# Altium integrated library Altera FLEX 10K.IntLib: 292 symbols (part 17 of 37)
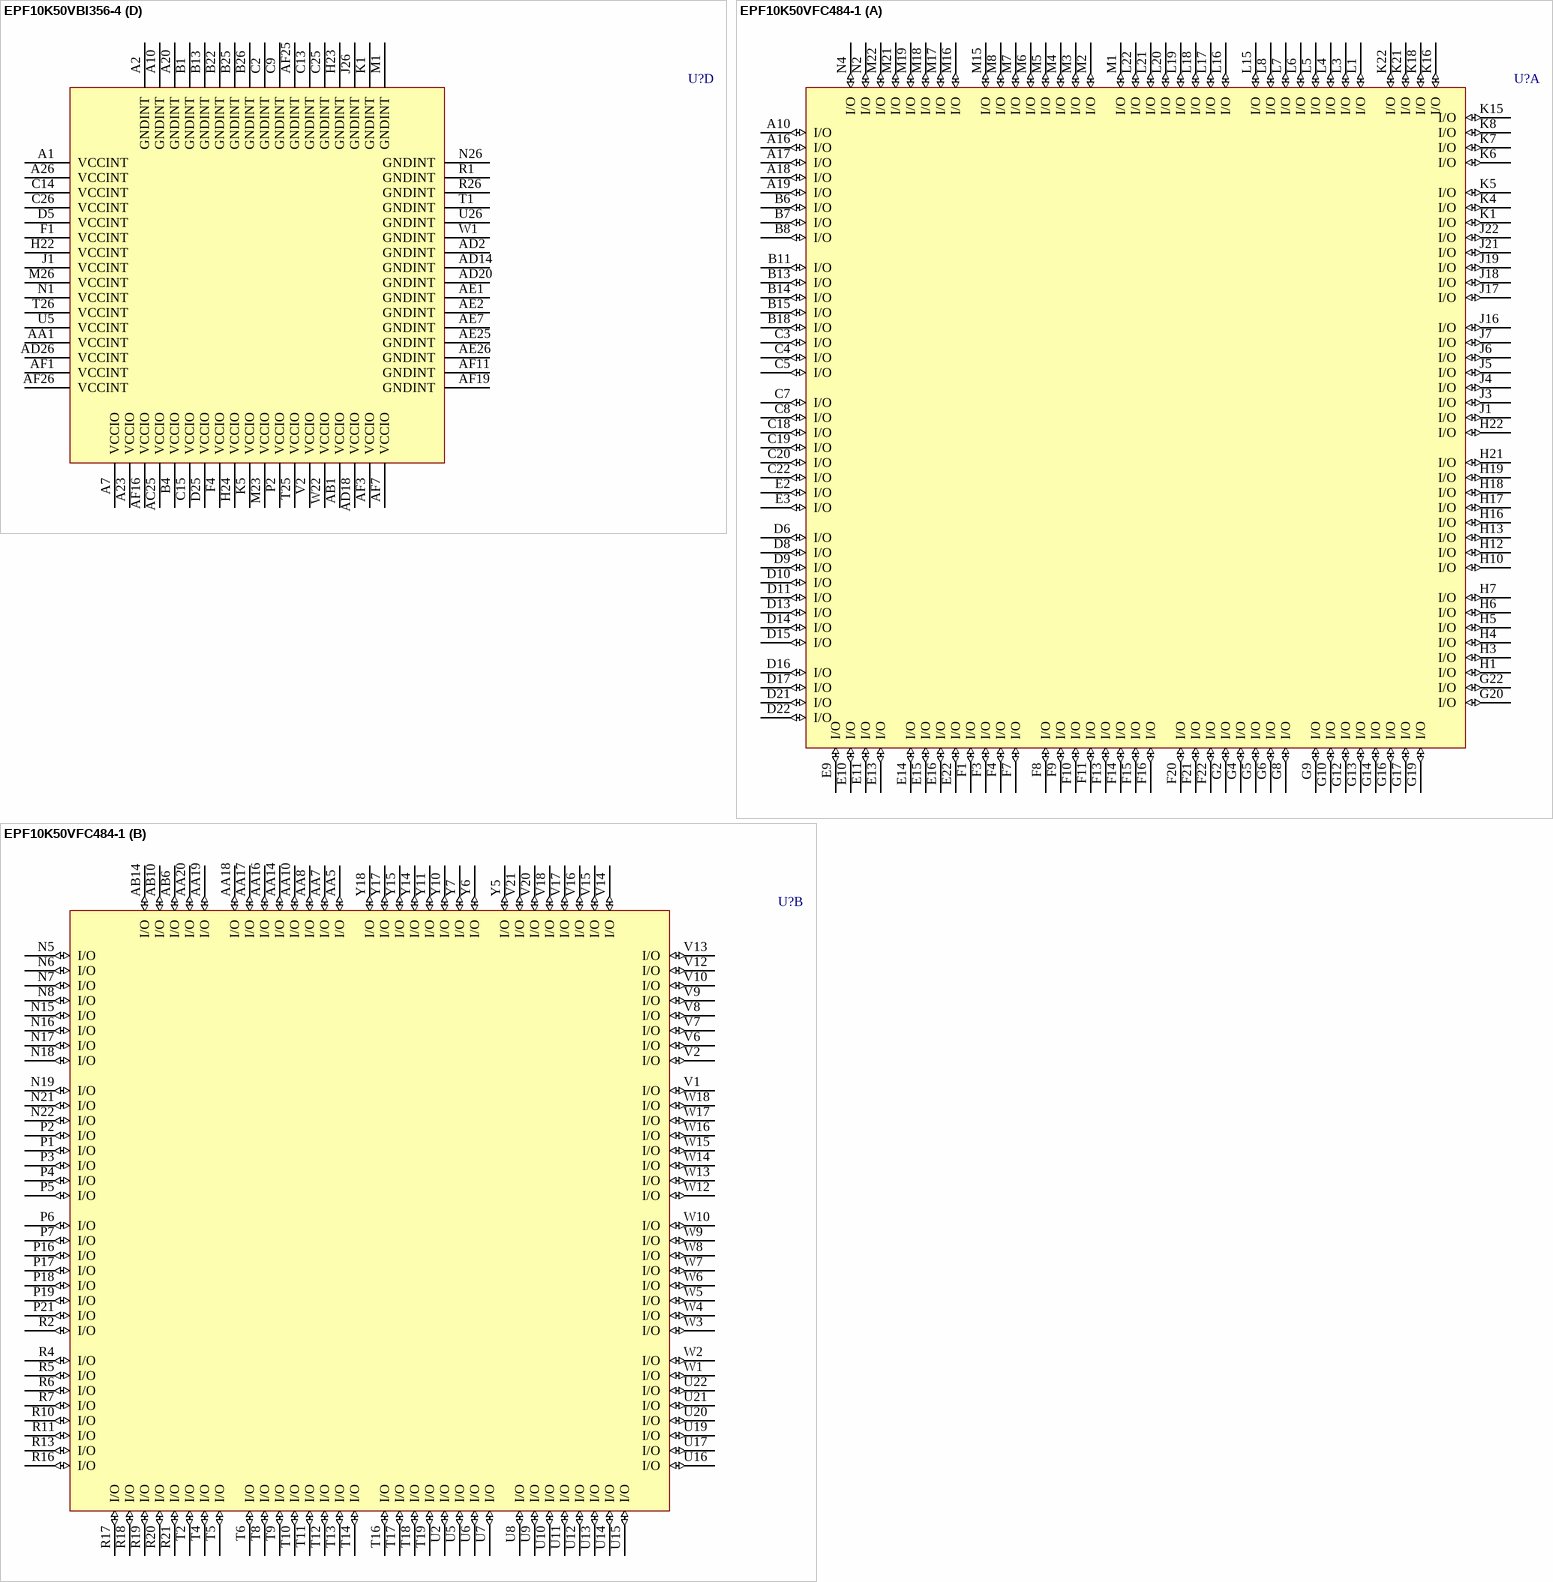
[diagram p414: symbols EPF10K50VBI356-4 to EPF10K50VFC484-1]

## EPF10K50VBI356-4
designator U?
FLEX EPF10K50V 3.3V Embedded PLD, 274 User IO Pins, 356-Pin BGA, Speed Grade 4, Industrial Grade; Published: 17-Jul-2002; LatestRevisionDate: 13-Apr-2006; LatestRevisionNote: IPC-7351 Footprint Added.; DatasheetVersion: ver4.2, Jan-2003; PackageVersion: ver14.2, Oct-2005; PackageReference: BGA356; Publisher: Altium Limited; PackageDescription: 356-Ball Ball Grid Array (BGA356); Supplier 1: Digi-Key; Supplier Part Number 1: EPF10K50VBI356-4-ND; Code_JEDEC: MO-192-BAR-2; ComponentLink1Description: Manufacturer Link; ComponentLink1URL: http://www.altera.com/products/devices/flex10k/f10-index.html; ComponentLink2Description: Datasheet; ComponentLink2URL: http://www.altera.com/literature/ds/dsf10k.pdf
footprint BGA356 (BGA, 356-Leads, Body 35x35mm, Pitch 1.27mm)
3D model EPF10K50V-BGA356 (356-Ball Ball Grid Array (BGA356))
part A pins: A3 I/O (io), A4 I/O (io), A5 I/O (io), A6 I/O (io), A8 I/O (io), A9 I/O (io), A11 I/O (io), A12 I/O (io), A15 I/O (io), A16 I/O (io), A17 I/O (io), A18 I/O (io), A19 I/O (io), A21 I/O (io), A22 I/O (io), A24 I/O (io), A25 I/O (io), B2 I/O (io), B3 I/O (io), B5 I/O (io), B6 I/O (io), B7 I/O (io), B8 I/O (io), B9 I/O (io), B10 I/O (io), B11 I/O (io), B12 I/O (io), B15 I/O (io), B16 I/O (io), B17 I/O (io), B18 I/O (io), B19 I/O (io), B20 I/O (io), B21 I/O (io), B23 I/O (io), B24 I/O (io), C1 I/O (io), C3 I/O (io), C4 I/O (io), C5 I/O (io), C6 I/O (io), C7 I/O (io), C8 I/O (io), C10 I/O (io), C11 I/O (io), C12 I/O (io), C16 I/O (io), C17 I/O (io), C18 I/O (io), C19 I/O (io), C20 I/O (io), C21 I/O (io), C22 I/O (io), C23 I/O (io), C24 I/O (io), D1 I/O (io), D26 I/O (io), E1 I/O (io), E2 I/O (io), E3 I/O (io), E4 I/O (io), E5 I/O (io), E22 I/O (io), E23 I/O (io), E24 I/O (io), E25 I/O (io), E26 I/O (io), F2 I/O (io), F3 I/O (io), F5 I/O (io), F22 I/O (io), F23 I/O (io), F24 I/O (io), F25 I/O (io), F26 I/O (io), G1 I/O (io), G2 I/O (io), G3 I/O (io), G4 I/O (io), G5 I/O (io), G22 I/O (io), G23 I/O (io), G24 I/O (io), G25 I/O (io), G26 I/O (io), H1 I/O (io), H2 I/O (io), H3 I/O (io), H4 I/O (io), H5 I/O (io), H25 I/O (io), H26 I/O (io), J2 I/O (io), J3 I/O (io), J4 I/O (io), J5 I/O (io), J22 I/O (io), J23 I/O (io), J24 I/O (io), J25 I/O (io), K2 I/O (io), K3 I/O (io), K4 I/O (io), K22 I/O (io), K23 I/O (io), K24 I/O (io), K25 I/O (io), K26 I/O (io), L1 I/O (io), L2 I/O (io), L3 I/O (io), L4 I/O (io), L5 I/O (io), L22 I/O (io), L23 I/O (io), L24 I/O (io), L25 I/O (io), L26 I/O (io), M2 I/O (io), M3 I/O (io), M4 I/O (io), M5 I/O (io), M22 I/O (io), M24 I/O (io), M25 I/O (io), N2 I/O (io), N3 I/O (io), N4 I/O (io)
part B pins: AA2 I/O (io), AA3 I/O (io), AA4 I/O (io), AA5 I/O (io), AA22 I/O (io), AA23 I/O (io), AA25 I/O (io), AA26 I/O (io), AB2 I/O (io), AB3 I/O (io), AB4 I/O (io), AB5 I/O (io), AB22 I/O (io), AB23 I/O (io), AB24 I/O (io), AB25 I/O (io), AB26 I/O (io), AC1 I/O (io), AC4 I/O (io), AC26 I/O (io), AD1 I/O (io), AD7 I/O (io), AD9 I/O (io), AD10 I/O (io), AD11 I/O (io), AD12 I/O (io), AD15 I/O (io), AD16 I/O (io), AD17 I/O (io), AD19 I/O (io), AD21 I/O (io), AD22 I/O (io), AE3 I/O (io), AE4 I/O (io), AE6 I/O (io), AE8 I/O (io), AE9 I/O (io), AE10 I/O (io), AE11 I/O (io), AE12 I/O (io), AE15 I/O (io), AE16 I/O (io), AE17 I/O (io), AE18 I/O (io), AE19 I/O (io), AE20 I/O (io), AE21 I/O (io), AE22 I/O (io), AF5 I/O (io), AF6 I/O (io), AF8 I/O (io), AF9 I/O (io), AF10 I/O (io), AF12 I/O (io), AF15 I/O (io), AF17 I/O (io), AF18 I/O (io), AF20 I/O (io), AF21 I/O (io), AF22 I/O (io), AF23 I/O (io), AF24 I/O (io), N5 I/O (io), N22 I/O (io), N23 I/O (io), N24 I/O (io), N25 I/O (io), P1 I/O (io), P3 I/O (io), P4 I/O (io), P5 I/O (io), P22 I/O (io), P23 I/O (io), P24 I/O (io), P25 I/O (io), P26 I/O (io), R2 I/O (io), R3 I/O (io), R4 I/O (io), R5 I/O (io), R22 I/O (io), R23 I/O (io), R24 I/O (io), R25 I/O (io), T2 I/O (io), T3 I/O (io), T4 I/O (io), T5 I/O (io), T22 I/O (io), T23 I/O (io), U1 I/O (io), U2 I/O (io), U3 I/O (io), U4 I/O (io), U23 I/O (io), U24 I/O (io), U25 I/O (io), V1 I/O (io), V3 I/O (io), V4 I/O (io), V5 I/O (io), V22 I/O (io), V23 I/O (io), V24 I/O (io), V25 I/O (io), V26 I/O (io), W2 I/O (io), W3 I/O (io), W4 I/O (io), W5 I/O (io), W23 I/O (io), W24 I/O (io), W25 I/O (io), W26 I/O (io), Y1 I/O (io), Y2 I/O (io), Y3 I/O (io), Y4 I/O (io), Y5 I/O (io), Y22 I/O (io), Y23 I/O (io), Y24 I/O (io), Y25 I/O (io), Y26 I/O (io)
part C pins: A13 INPUT (in), A14 CLK (in), AA24 CLKUSR (io), AC2 nCE (in), AC3 TDI (in), AC5 DCLK (in), AC22 nCEO (out), AC23 TDO (out), AC24 CONF_DONE (in), AD3 DATA0 (in), AD4 DATA1 (io), AD5 DATA2 (io), AD6 DATA4 (io), AD8 DATA6 (io), AD13 DEV_CLRn (io), AD23 CS (io), AD24 nCS (io), AD25 TCK (in), AE5 DATA5 (io), AE13 INPUT (in), AE14 DEV_OE (io), AE23 nRS (io), AE24 nWS (io), AF2 DATA3 (io), AF4 DATA7 (io), AF13 CLK (in), AF14 INPUT (in), B14 INPUT (in), D2 nCONFIG (in), D3 MSEL1 (in), D4 MSEL0 (in), D22 TMS (in), D23 TRST (in), D24 nSTATUS (in), T24 INIT_DONE (io), U22 RDYnBSY (io)
part D pins: A1 VCCINT (power), A2 GNDINT (power), A7 VCCIO (power), A10 GNDINT (power), A20 GNDINT (power), A23 VCCIO (power), A26 VCCINT (power), AA1 VCCINT (power), AB1 VCCIO (power), AC25 VCCIO (power), AD2 GNDINT (power), AD14 GNDINT (power), AD18 VCCIO (power), AD20 GNDINT (power), AD26 VCCINT (power), AE1 GNDINT (power), AE2 GNDINT (power), AE7 GNDINT (power), AE25 GNDINT (power), AE26 GNDINT (power), AF1 VCCINT (power), AF3 VCCIO (power), AF7 VCCIO (power), AF11 GNDINT (power), AF16 VCCIO (power), AF19 GNDINT (power), AF25 GNDINT (power), AF26 VCCINT (power), B1 GNDINT (power), B4 VCCIO (power), B13 GNDINT (power), B22 GNDINT (power), B25 GNDINT (power), B26 GNDINT (power), C2 GNDINT (power), C9 GNDINT (power), C13 GNDINT (power), C14 VCCINT (power), C15 VCCIO (power), C25 GNDINT (power), C26 VCCINT (power), D5 VCCINT (power), D25 VCCIO (power), F1 VCCINT (power), F4 VCCIO (power), H22 VCCINT (power), H23 GNDINT (power), H24 VCCIO (power), J1 VCCINT (power), J26 GNDINT (power), K1 GNDINT (power), K5 VCCIO (power), M1 GNDINT (power), M23 VCCIO (power), M26 VCCINT (power), N1 VCCINT (power), N26 GNDINT (power), P2 VCCIO (power), R1 GNDINT (power), R26 GNDINT (power), T1 GNDINT (power), T25 VCCIO (power), T26 VCCINT (power), U5 VCCINT (power), U26 GNDINT (power), V2 VCCIO (power), W1 GNDINT (power), W22 VCCIO (power)

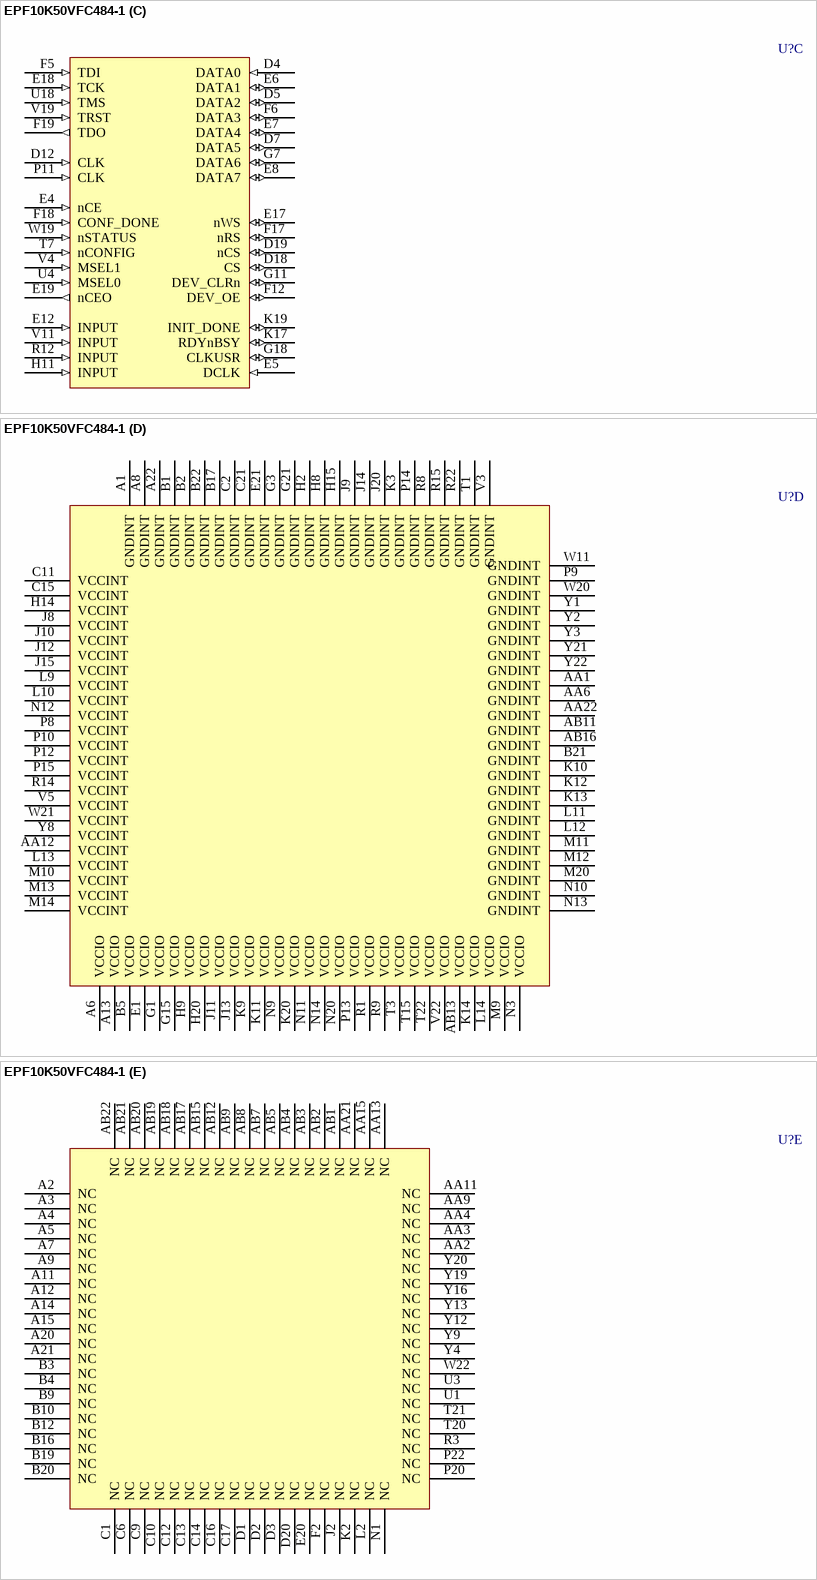
[diagram p165: symbol EPF10K50VFC484-1]

## EPF10K50VFC484-1
designator U?
FLEX EPF10K50V 3.3V Embedded PLD, 291 User IO Pins, 484-Pin FBGA, Speed Grade 1, Commercial Grade; Published: 17-Jul-2002; LatestRevisionDate: 13-Apr-2006; LatestRevisionNote: IPC-7351 Footprint Added.; DatasheetVersion: ver4.2, Jan-2003; PackageVersion: ver16.0, Dec-2009; PackageReference: FBGA484; Publisher: Altium Limited; PackageDescription: 484-Ball FineLine Ball Grid Array (FBGA484) - Flip Chip; Code_JEDEC: MS-034-AAJ-1; Code_IPC: BGA100P22X22-484; ComponentLink1Description: Manufacturer Link; ComponentLink1URL: http://www.altera.com/products/devices/flex10k/f10-index.html; ComponentLink2Description: Datasheet; ComponentLink2URL: http://www.altera.com/literature/ds/dsf10k.pdf
footprint FBGA484 (BGA, 484-Leads, Body 23x23mm, Pitch 1mm)
3D model EPF10K50V-FBGA484 (484-Ball FineLine Ball Grid Array (FBGA484) - Flip Chip)
part A pins: A10 I/O (io), A16 I/O (io), A17 I/O (io), A18 I/O (io), A19 I/O (io), B6 I/O (io), B7 I/O (io), B8 I/O (io), B11 I/O (io), B13 I/O (io), B14 I/O (io), B15 I/O (io), B18 I/O (io), C3 I/O (io), C4 I/O (io), C5 I/O (io), C7 I/O (io), C8 I/O (io), C18 I/O (io), C19 I/O (io), C20 I/O (io), C22 I/O (io), D6 I/O (io), D8 I/O (io), D9 I/O (io), D10 I/O (io), D11 I/O (io), D13 I/O (io), D14 I/O (io), D15 I/O (io), D16 I/O (io), D17 I/O (io), D21 I/O (io), D22 I/O (io), E2 I/O (io), E3 I/O (io), E9 I/O (io), E10 I/O (io), E11 I/O (io), E13 I/O (io), E14 I/O (io), E15 I/O (io), E16 I/O (io), E22 I/O (io), F1 I/O (io), F3 I/O (io), F4 I/O (io), F7 I/O (io), F8 I/O (io), F9 I/O (io), F10 I/O (io), F11 I/O (io), F13 I/O (io), F14 I/O (io), F15 I/O (io), F16 I/O (io), F20 I/O (io), F21 I/O (io), F22 I/O (io), G2 I/O (io), G4 I/O (io), G5 I/O (io), G6 I/O (io), G8 I/O (io), G9 I/O (io), G10 I/O (io), G12 I/O (io), G13 I/O (io), G14 I/O (io), G16 I/O (io), G17 I/O (io), G19 I/O (io), G20 I/O (io), G22 I/O (io), H1 I/O (io), H3 I/O (io), H4 I/O (io), H5 I/O (io), H6 I/O (io), H7 I/O (io), H10 I/O (io), H12 I/O (io), H13 I/O (io), H16 I/O (io), H17 I/O (io), H18 I/O (io), H19 I/O (io), H21 I/O (io), H22 I/O (io), J1 I/O (io), J3 I/O (io), J4 I/O (io), J5 I/O (io), J6 I/O (io), J7 I/O (io), J16 I/O (io), J17 I/O (io), J18 I/O (io), J19 I/O (io), J21 I/O (io), J22 I/O (io), K1 I/O (io), K4 I/O (io), K5 I/O (io), K6 I/O (io), K7 I/O (io), K8 I/O (io), K15 I/O (io), K16 I/O (io), K18 I/O (io), K21 I/O (io), K22 I/O (io), L1 I/O (io), L3 I/O (io), L4 I/O (io), L5 I/O (io), L6 I/O (io), L7 I/O (io), L8 I/O (io), L15 I/O (io), L16 I/O (io), L17 I/O (io), L18 I/O (io), L19 I/O (io), L20 I/O (io), L21 I/O (io), L22 I/O (io), M1 I/O (io), M2 I/O (io), M3 I/O (io), M4 I/O (io), M5 I/O (io), M6 I/O (io), M7 I/O (io), M8 I/O (io), M15 I/O (io), M16 I/O (io), M17 I/O (io), M18 I/O (io), M19 I/O (io), M21 I/O (io), M22 I/O (io), N2 I/O (io), N4 I/O (io)
part B pins: AA5 I/O (io), AA7 I/O (io), AA8 I/O (io), AA10 I/O (io), AA14 I/O (io), AA16 I/O (io), AA17 I/O (io), AA18 I/O (io), AA19 I/O (io), AA20 I/O (io), AB6 I/O (io), AB10 I/O (io), AB14 I/O (io), N5 I/O (io), N6 I/O (io), N7 I/O (io), N8 I/O (io), N15 I/O (io), N16 I/O (io), N17 I/O (io), N18 I/O (io), N19 I/O (io), N21 I/O (io), N22 I/O (io), P1 I/O (io), P2 I/O (io), P3 I/O (io), P4 I/O (io), P5 I/O (io), P6 I/O (io), P7 I/O (io), P16 I/O (io), P17 I/O (io), P18 I/O (io), P19 I/O (io), P21 I/O (io), R2 I/O (io), R4 I/O (io), R5 I/O (io), R6 I/O (io), R7 I/O (io), R10 I/O (io), R11 I/O (io), R13 I/O (io), R16 I/O (io), R17 I/O (io), R18 I/O (io), R19 I/O (io), R20 I/O (io), R21 I/O (io), T2 I/O (io), T4 I/O (io), T5 I/O (io), T6 I/O (io), T8 I/O (io), T9 I/O (io), T10 I/O (io), T11 I/O (io), T12 I/O (io), T13 I/O (io), T14 I/O (io), T16 I/O (io), T17 I/O (io), T18 I/O (io), T19 I/O (io), U2 I/O (io), U5 I/O (io), U6 I/O (io), U7 I/O (io), U8 I/O (io), U9 I/O (io), U10 I/O (io), U11 I/O (io), U12 I/O (io), U13 I/O (io), U14 I/O (io), U15 I/O (io), U16 I/O (io), U17 I/O (io), U19 I/O (io), U20 I/O (io), U21 I/O (io), U22 I/O (io), V1 I/O (io), V2 I/O (io), V6 I/O (io), V7 I/O (io), V8 I/O (io), V9 I/O (io), V10 I/O (io), V12 I/O (io), V13 I/O (io), V14 I/O (io), V15 I/O (io), V16 I/O (io), V17 I/O (io), V18 I/O (io), V20 I/O (io), V21 I/O (io), W1 I/O (io), W2 I/O (io), W3 I/O (io), W4 I/O (io), W5 I/O (io), W6 I/O (io), W7 I/O (io), W8 I/O (io), W9 I/O (io), W10 I/O (io), W12 I/O (io), W13 I/O (io), W14 I/O (io), W15 I/O (io), W16 I/O (io), W17 I/O (io), W18 I/O (io), Y5 I/O (io), Y6 I/O (io), Y7 I/O (io), Y10 I/O (io), Y11 I/O (io), Y14 I/O (io), Y15 I/O (io), Y17 I/O (io), Y18 I/O (io)
part C pins: D4 DATA0 (in), D5 DATA2 (io), D7 DATA5 (io), D12 CLK (in), D18 CS (io), D19 nCS (io), E4 nCE (in), E5 DCLK (in), E6 DATA1 (io), E7 DATA4 (io), E8 DATA7 (io), E12 INPUT (in), E17 nWS (io), E18 TCK (in), E19 nCEO (out), F5 TDI (in), F6 DATA3 (io), F12 DEV_OE (io), F17 nRS (io), F18 CONF_DONE (in), F19 TDO (out), G7 DATA6 (io), G11 DEV_CLRn (io), G18 CLKUSR (io), H11 INPUT (in), K17 RDYnBSY (io), K19 INIT_DONE (io), P11 CLK (in), R12 INPUT (in), T7 nCONFIG (in), U4 MSEL0 (in), U18 TMS (in), V4 MSEL1 (in), V11 INPUT (in), V19 TRST (in), W19 nSTATUS (in)
part D pins: A1 GNDINT (power), A6 VCCIO (power), A8 GNDINT (power), A13 VCCIO (power), A22 GNDINT (power), AA1 GNDINT (power), AA6 GNDINT (power), AA12 VCCINT (power), AA22 GNDINT (power), AB11 GNDINT (power), AB13 VCCIO (power), AB16 GNDINT (power), B1 GNDINT (power), B2 GNDINT (power), B5 VCCIO (power), B17 GNDINT (power), B21 GNDINT (power), B22 GNDINT (power), C2 GNDINT (power), C11 VCCINT (power), C15 VCCINT (power), C21 GNDINT (power), E1 VCCIO (power), E21 GNDINT (power), G1 VCCIO (power), G3 GNDINT (power), G15 VCCIO (power), G21 GNDINT (power), H2 GNDINT (power), H8 GNDINT (power), H9 VCCIO (power), H14 VCCINT (power), H15 GNDINT (power), H20 VCCIO (power), J8 VCCINT (power), J9 GNDINT (power), J10 VCCINT (power), J11 VCCIO (power), J12 VCCINT (power), J13 VCCIO (power), J14 GNDINT (power), J15 VCCINT (power), J20 GNDINT (power), K3 GNDINT (power), K9 VCCIO (power), K10 GNDINT (power), K11 VCCIO (power), K12 GNDINT (power), K13 GNDINT (power), K14 VCCIO (power), K20 VCCIO (power), L9 VCCINT (power), L10 VCCINT (power), L11 GNDINT (power), L12 GNDINT (power), L13 VCCINT (power), L14 VCCIO (power), M9 VCCIO (power), M10 VCCINT (power), M11 GNDINT (power), M12 GNDINT (power), M13 VCCINT (power), M14 VCCINT (power), M20 GNDINT (power), N3 VCCIO (power), N9 VCCIO (power), N10 GNDINT (power), N11 VCCIO (power), N12 VCCINT (power), N13 GNDINT (power), N14 VCCIO (power), N20 VCCIO (power), P8 VCCINT (power), P9 GNDINT (power), P10 VCCINT (power), P12 VCCINT (power), P13 VCCIO (power), P14 GNDINT (power), P15 VCCINT (power), R1 VCCIO (power), R8 GNDINT (power), R9 VCCIO (power), R14 VCCINT (power), R15 GNDINT (power), R22 GNDINT (power), T1 GNDINT (power), T3 VCCIO (power), T15 VCCIO (power), T22 VCCIO (power), V3 GNDINT (power), V5 VCCINT (power), V22 VCCIO (power), W11 GNDINT (power), W20 GNDINT (power), W21 VCCINT (power), Y1 GNDINT (power), Y2 GNDINT (power), Y3 GNDINT (power), Y8 VCCINT (power), Y21 GNDINT (power), Y22 GNDINT (power)
part E pins: A2 NC, A3 NC, A4 NC, A5 NC, A7 NC, A9 NC, A11 NC, A12 NC, A14 NC, A15 NC, A20 NC, A21 NC, AA2 NC, AA3 NC, AA4 NC, AA9 NC, AA11 NC, AA13 NC, AA15 NC, AA21 NC, AB1 NC, AB2 NC, AB3 NC, AB4 NC, AB5 NC, AB7 NC, AB8 NC, AB9 NC, AB12 NC, AB15 NC, AB17 NC, AB18 NC, AB19 NC, AB20 NC, AB21 NC, AB22 NC, B3 NC, B4 NC, B9 NC, B10 NC, B12 NC, B16 NC, B19 NC, B20 NC, C1 NC, C6 NC, C9 NC, C10 NC, C12 NC, C13 NC, C14 NC, C16 NC, C17 NC, D1 NC, D2 NC, D3 NC, D20 NC, E20 NC, F2 NC, J2 NC, K2 NC, L2 NC, N1 NC, P20 NC, P22 NC, R3 NC, T20 NC, T21 NC, U1 NC, U3 NC, W22 NC, Y4 NC, Y9 NC, Y12 NC, Y13 NC, Y16 NC, Y19 NC, Y20 NC

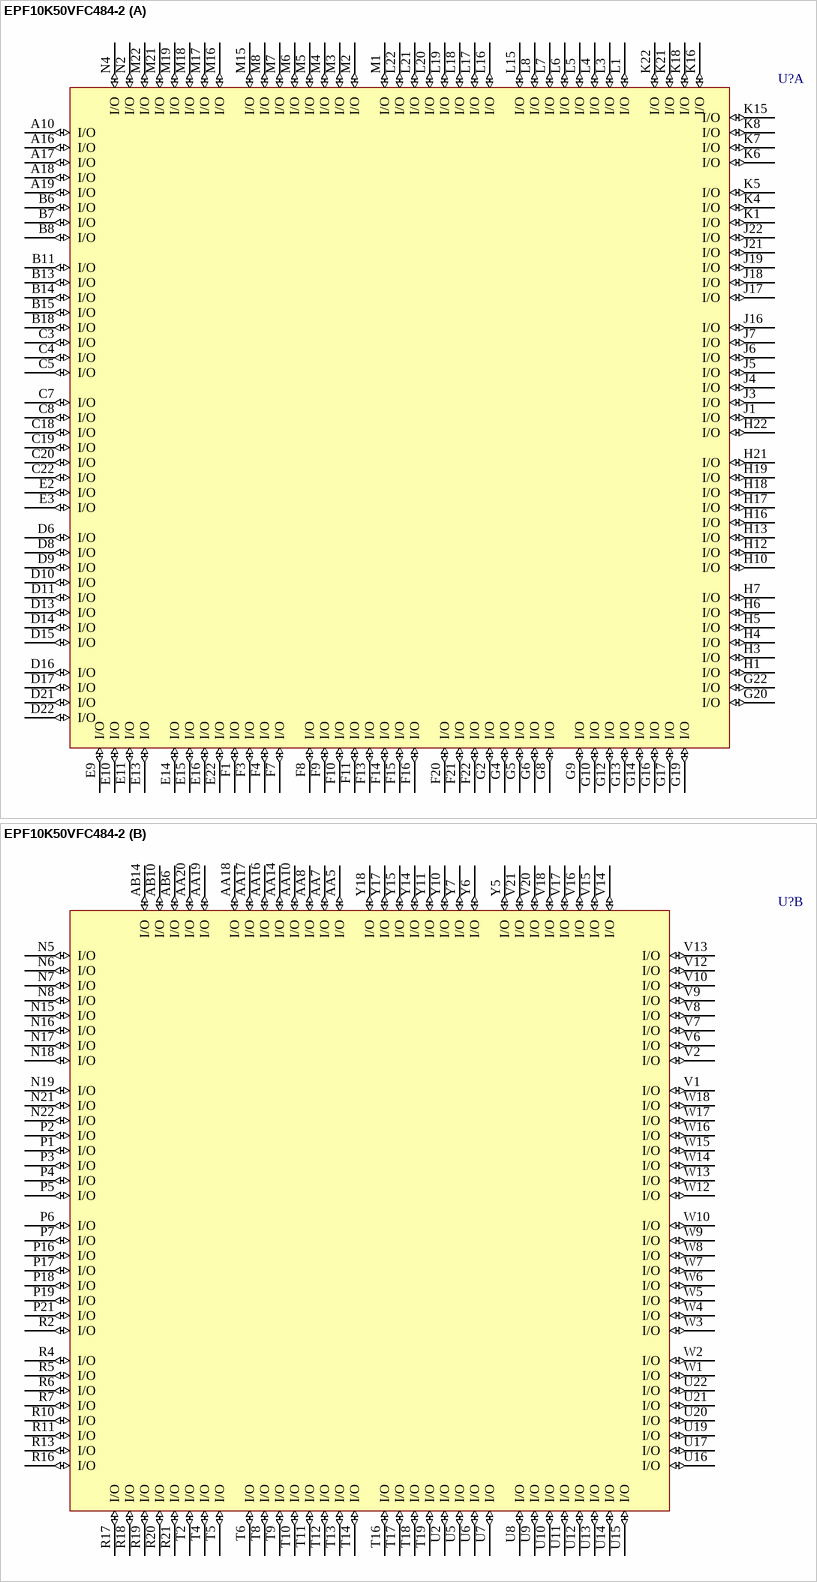
[diagram p166: symbol EPF10K50VFC484-2]

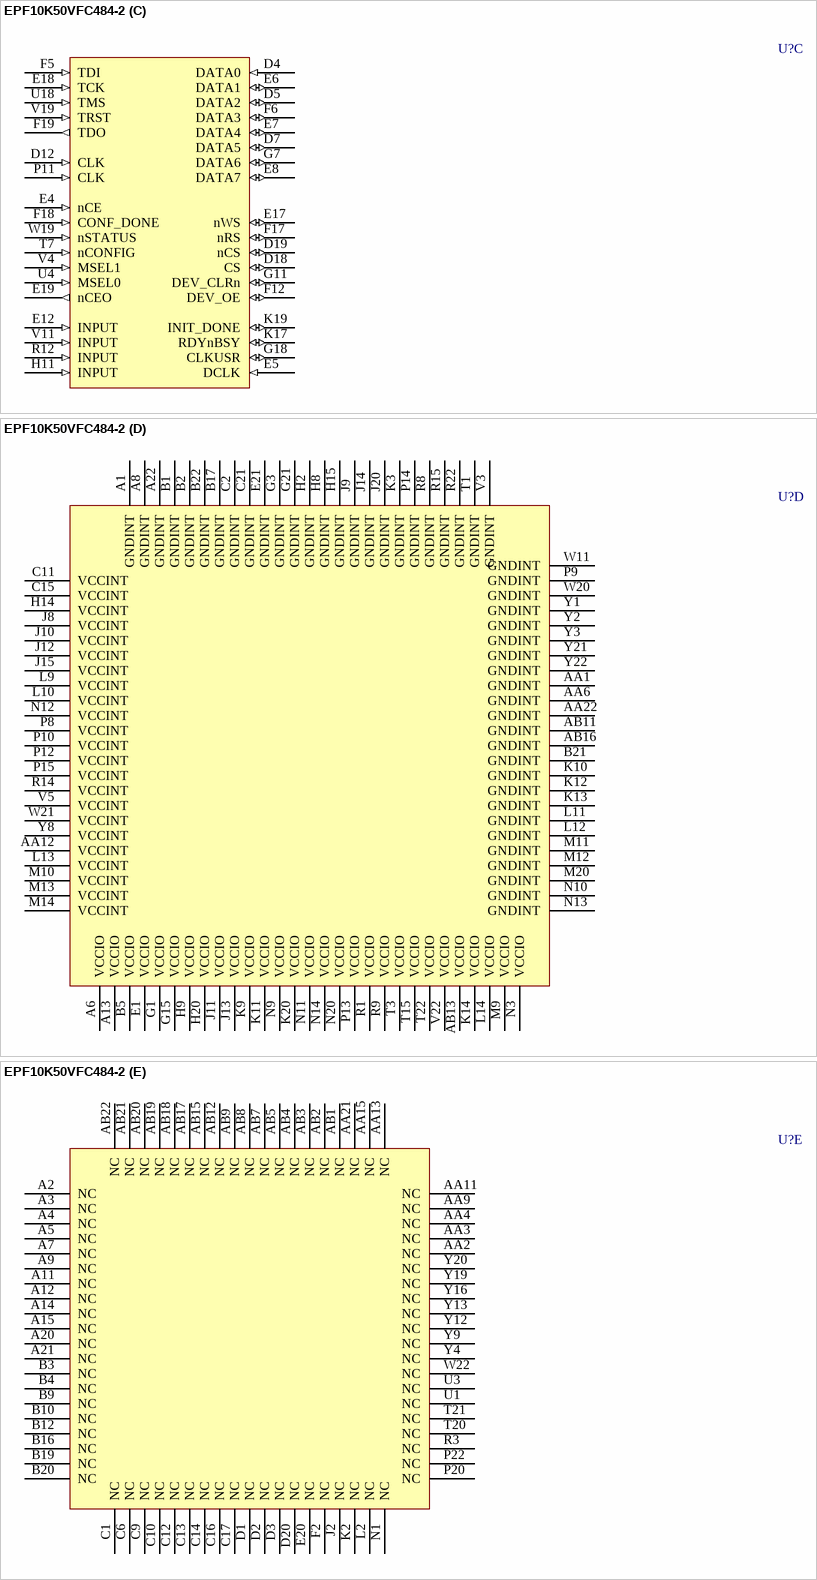
[diagram p167: symbol EPF10K50VFC484-2]

## EPF10K50VFC484-2
designator U?
FLEX EPF10K50V 3.3V Embedded PLD, 291 User IO Pins, 484-Pin FBGA, Speed Grade 2, Commercial Grade; Published: 17-Jul-2002; LatestRevisionDate: 13-Apr-2006; LatestRevisionNote: IPC-7351 Footprint Added.; DatasheetVersion: ver4.2, Jan-2003; PackageVersion: ver16.0, Dec-2009; PackageReference: FBGA484; Publisher: Altium Limited; PackageDescription: 484-Ball FineLine Ball Grid Array (FBGA484) - Flip Chip; Code_JEDEC: MS-034-AAJ-1; Code_IPC: BGA100P22X22-484; ComponentLink1Description: Manufacturer Link; ComponentLink1URL: http://www.altera.com/products/devices/flex10k/f10-index.html; ComponentLink2Description: Datasheet; ComponentLink2URL: http://www.altera.com/literature/ds/dsf10k.pdf
footprint FBGA484 (BGA, 484-Leads, Body 23x23mm, Pitch 1mm)
3D model EPF10K50V-FBGA484 (484-Ball FineLine Ball Grid Array (FBGA484) - Flip Chip)
part A pins: A10 I/O (io), A16 I/O (io), A17 I/O (io), A18 I/O (io), A19 I/O (io), B6 I/O (io), B7 I/O (io), B8 I/O (io), B11 I/O (io), B13 I/O (io), B14 I/O (io), B15 I/O (io), B18 I/O (io), C3 I/O (io), C4 I/O (io), C5 I/O (io), C7 I/O (io), C8 I/O (io), C18 I/O (io), C19 I/O (io), C20 I/O (io), C22 I/O (io), D6 I/O (io), D8 I/O (io), D9 I/O (io), D10 I/O (io), D11 I/O (io), D13 I/O (io), D14 I/O (io), D15 I/O (io), D16 I/O (io), D17 I/O (io), D21 I/O (io), D22 I/O (io), E2 I/O (io), E3 I/O (io), E9 I/O (io), E10 I/O (io), E11 I/O (io), E13 I/O (io), E14 I/O (io), E15 I/O (io), E16 I/O (io), E22 I/O (io), F1 I/O (io), F3 I/O (io), F4 I/O (io), F7 I/O (io), F8 I/O (io), F9 I/O (io), F10 I/O (io), F11 I/O (io), F13 I/O (io), F14 I/O (io), F15 I/O (io), F16 I/O (io), F20 I/O (io), F21 I/O (io), F22 I/O (io), G2 I/O (io), G4 I/O (io), G5 I/O (io), G6 I/O (io), G8 I/O (io), G9 I/O (io), G10 I/O (io), G12 I/O (io), G13 I/O (io), G14 I/O (io), G16 I/O (io), G17 I/O (io), G19 I/O (io), G20 I/O (io), G22 I/O (io), H1 I/O (io), H3 I/O (io), H4 I/O (io), H5 I/O (io), H6 I/O (io), H7 I/O (io), H10 I/O (io), H12 I/O (io), H13 I/O (io), H16 I/O (io), H17 I/O (io), H18 I/O (io), H19 I/O (io), H21 I/O (io), H22 I/O (io), J1 I/O (io), J3 I/O (io), J4 I/O (io), J5 I/O (io), J6 I/O (io), J7 I/O (io), J16 I/O (io), J17 I/O (io), J18 I/O (io), J19 I/O (io), J21 I/O (io), J22 I/O (io), K1 I/O (io), K4 I/O (io), K5 I/O (io), K6 I/O (io), K7 I/O (io), K8 I/O (io), K15 I/O (io), K16 I/O (io), K18 I/O (io), K21 I/O (io), K22 I/O (io), L1 I/O (io), L3 I/O (io), L4 I/O (io), L5 I/O (io), L6 I/O (io), L7 I/O (io), L8 I/O (io), L15 I/O (io), L16 I/O (io), L17 I/O (io), L18 I/O (io), L19 I/O (io), L20 I/O (io), L21 I/O (io), L22 I/O (io), M1 I/O (io), M2 I/O (io), M3 I/O (io), M4 I/O (io), M5 I/O (io), M6 I/O (io), M7 I/O (io), M8 I/O (io), M15 I/O (io), M16 I/O (io), M17 I/O (io), M18 I/O (io), M19 I/O (io), M21 I/O (io), M22 I/O (io), N2 I/O (io), N4 I/O (io)
part B pins: AA5 I/O (io), AA7 I/O (io), AA8 I/O (io), AA10 I/O (io), AA14 I/O (io), AA16 I/O (io), AA17 I/O (io), AA18 I/O (io), AA19 I/O (io), AA20 I/O (io), AB6 I/O (io), AB10 I/O (io), AB14 I/O (io), N5 I/O (io), N6 I/O (io), N7 I/O (io), N8 I/O (io), N15 I/O (io), N16 I/O (io), N17 I/O (io), N18 I/O (io), N19 I/O (io), N21 I/O (io), N22 I/O (io), P1 I/O (io), P2 I/O (io), P3 I/O (io), P4 I/O (io), P5 I/O (io), P6 I/O (io), P7 I/O (io), P16 I/O (io), P17 I/O (io), P18 I/O (io), P19 I/O (io), P21 I/O (io), R2 I/O (io), R4 I/O (io), R5 I/O (io), R6 I/O (io), R7 I/O (io), R10 I/O (io), R11 I/O (io), R13 I/O (io), R16 I/O (io), R17 I/O (io), R18 I/O (io), R19 I/O (io), R20 I/O (io), R21 I/O (io), T2 I/O (io), T4 I/O (io), T5 I/O (io), T6 I/O (io), T8 I/O (io), T9 I/O (io), T10 I/O (io), T11 I/O (io), T12 I/O (io), T13 I/O (io), T14 I/O (io), T16 I/O (io), T17 I/O (io), T18 I/O (io), T19 I/O (io), U2 I/O (io), U5 I/O (io), U6 I/O (io), U7 I/O (io), U8 I/O (io), U9 I/O (io), U10 I/O (io), U11 I/O (io), U12 I/O (io), U13 I/O (io), U14 I/O (io), U15 I/O (io), U16 I/O (io), U17 I/O (io), U19 I/O (io), U20 I/O (io), U21 I/O (io), U22 I/O (io), V1 I/O (io), V2 I/O (io), V6 I/O (io), V7 I/O (io), V8 I/O (io), V9 I/O (io), V10 I/O (io), V12 I/O (io), V13 I/O (io), V14 I/O (io), V15 I/O (io), V16 I/O (io), V17 I/O (io), V18 I/O (io), V20 I/O (io), V21 I/O (io), W1 I/O (io), W2 I/O (io), W3 I/O (io), W4 I/O (io), W5 I/O (io), W6 I/O (io), W7 I/O (io), W8 I/O (io), W9 I/O (io), W10 I/O (io), W12 I/O (io), W13 I/O (io), W14 I/O (io), W15 I/O (io), W16 I/O (io), W17 I/O (io), W18 I/O (io), Y5 I/O (io), Y6 I/O (io), Y7 I/O (io), Y10 I/O (io), Y11 I/O (io), Y14 I/O (io), Y15 I/O (io), Y17 I/O (io), Y18 I/O (io)
part C pins: D4 DATA0 (in), D5 DATA2 (io), D7 DATA5 (io), D12 CLK (in), D18 CS (io), D19 nCS (io), E4 nCE (in), E5 DCLK (in), E6 DATA1 (io), E7 DATA4 (io), E8 DATA7 (io), E12 INPUT (in), E17 nWS (io), E18 TCK (in), E19 nCEO (out), F5 TDI (in), F6 DATA3 (io), F12 DEV_OE (io), F17 nRS (io), F18 CONF_DONE (in), F19 TDO (out), G7 DATA6 (io), G11 DEV_CLRn (io), G18 CLKUSR (io), H11 INPUT (in), K17 RDYnBSY (io), K19 INIT_DONE (io), P11 CLK (in), R12 INPUT (in), T7 nCONFIG (in), U4 MSEL0 (in), U18 TMS (in), V4 MSEL1 (in), V11 INPUT (in), V19 TRST (in), W19 nSTATUS (in)
part D pins: A1 GNDINT (power), A6 VCCIO (power), A8 GNDINT (power), A13 VCCIO (power), A22 GNDINT (power), AA1 GNDINT (power), AA6 GNDINT (power), AA12 VCCINT (power), AA22 GNDINT (power), AB11 GNDINT (power), AB13 VCCIO (power), AB16 GNDINT (power), B1 GNDINT (power), B2 GNDINT (power), B5 VCCIO (power), B17 GNDINT (power), B21 GNDINT (power), B22 GNDINT (power), C2 GNDINT (power), C11 VCCINT (power), C15 VCCINT (power), C21 GNDINT (power), E1 VCCIO (power), E21 GNDINT (power), G1 VCCIO (power), G3 GNDINT (power), G15 VCCIO (power), G21 GNDINT (power), H2 GNDINT (power), H8 GNDINT (power), H9 VCCIO (power), H14 VCCINT (power), H15 GNDINT (power), H20 VCCIO (power), J8 VCCINT (power), J9 GNDINT (power), J10 VCCINT (power), J11 VCCIO (power), J12 VCCINT (power), J13 VCCIO (power), J14 GNDINT (power), J15 VCCINT (power), J20 GNDINT (power), K3 GNDINT (power), K9 VCCIO (power), K10 GNDINT (power), K11 VCCIO (power), K12 GNDINT (power), K13 GNDINT (power), K14 VCCIO (power), K20 VCCIO (power), L9 VCCINT (power), L10 VCCINT (power), L11 GNDINT (power), L12 GNDINT (power), L13 VCCINT (power), L14 VCCIO (power), M9 VCCIO (power), M10 VCCINT (power), M11 GNDINT (power), M12 GNDINT (power), M13 VCCINT (power), M14 VCCINT (power), M20 GNDINT (power), N3 VCCIO (power), N9 VCCIO (power), N10 GNDINT (power), N11 VCCIO (power), N12 VCCINT (power), N13 GNDINT (power), N14 VCCIO (power), N20 VCCIO (power), P8 VCCINT (power), P9 GNDINT (power), P10 VCCINT (power), P12 VCCINT (power), P13 VCCIO (power), P14 GNDINT (power), P15 VCCINT (power), R1 VCCIO (power), R8 GNDINT (power), R9 VCCIO (power), R14 VCCINT (power), R15 GNDINT (power), R22 GNDINT (power), T1 GNDINT (power), T3 VCCIO (power), T15 VCCIO (power), T22 VCCIO (power), V3 GNDINT (power), V5 VCCINT (power), V22 VCCIO (power), W11 GNDINT (power), W20 GNDINT (power), W21 VCCINT (power), Y1 GNDINT (power), Y2 GNDINT (power), Y3 GNDINT (power), Y8 VCCINT (power), Y21 GNDINT (power), Y22 GNDINT (power)
part E pins: A2 NC, A3 NC, A4 NC, A5 NC, A7 NC, A9 NC, A11 NC, A12 NC, A14 NC, A15 NC, A20 NC, A21 NC, AA2 NC, AA3 NC, AA4 NC, AA9 NC, AA11 NC, AA13 NC, AA15 NC, AA21 NC, AB1 NC, AB2 NC, AB3 NC, AB4 NC, AB5 NC, AB7 NC, AB8 NC, AB9 NC, AB12 NC, AB15 NC, AB17 NC, AB18 NC, AB19 NC, AB20 NC, AB21 NC, AB22 NC, B3 NC, B4 NC, B9 NC, B10 NC, B12 NC, B16 NC, B19 NC, B20 NC, C1 NC, C6 NC, C9 NC, C10 NC, C12 NC, C13 NC, C14 NC, C16 NC, C17 NC, D1 NC, D2 NC, D3 NC, D20 NC, E20 NC, F2 NC, J2 NC, K2 NC, L2 NC, N1 NC, P20 NC, P22 NC, R3 NC, T20 NC, T21 NC, U1 NC, U3 NC, W22 NC, Y4 NC, Y9 NC, Y12 NC, Y13 NC, Y16 NC, Y19 NC, Y20 NC

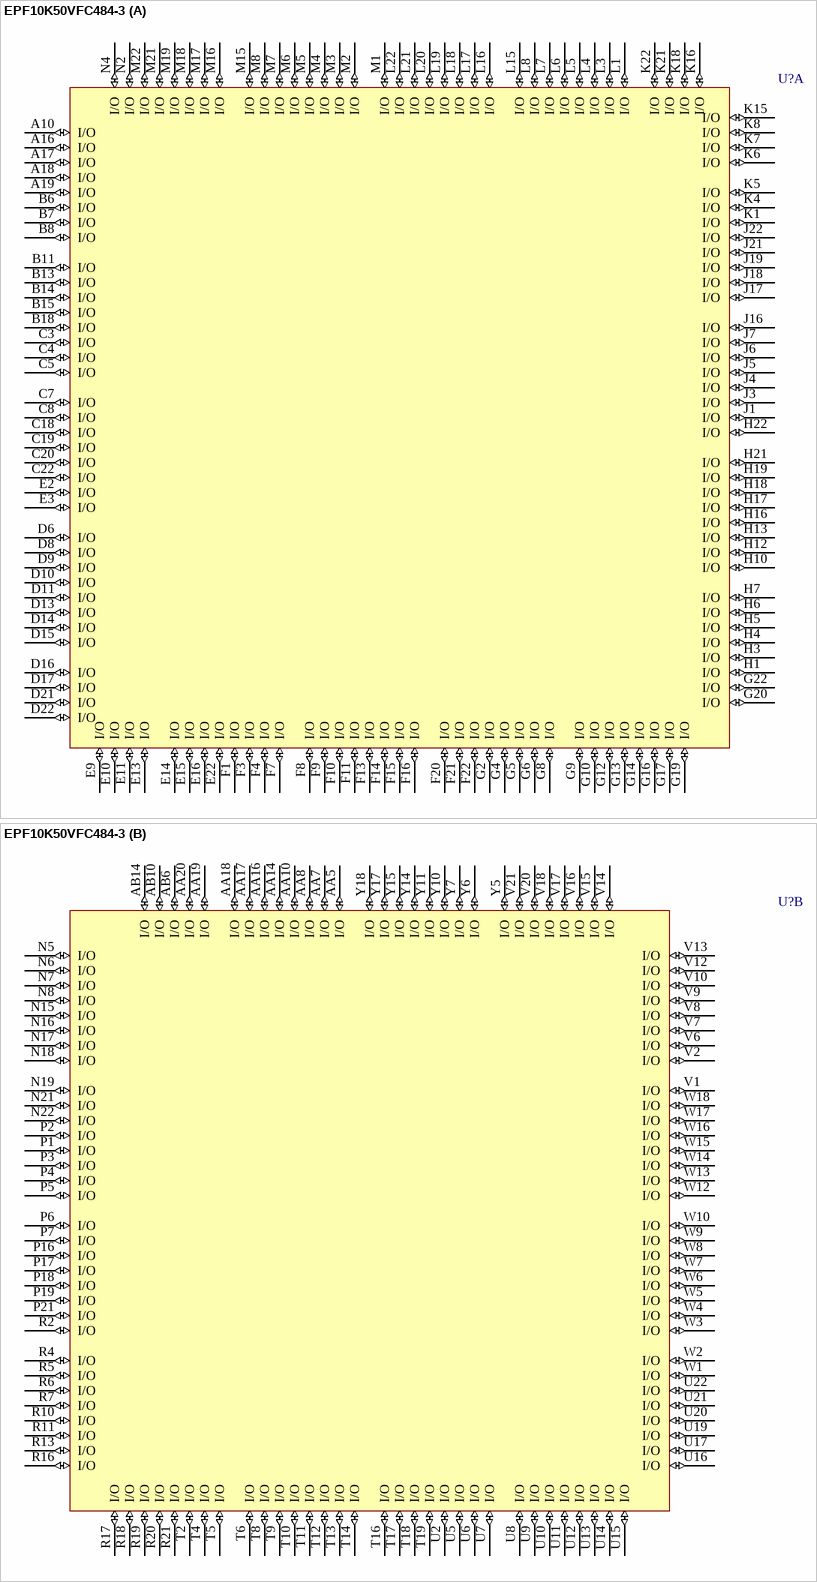
[diagram p168: symbol EPF10K50VFC484-3]

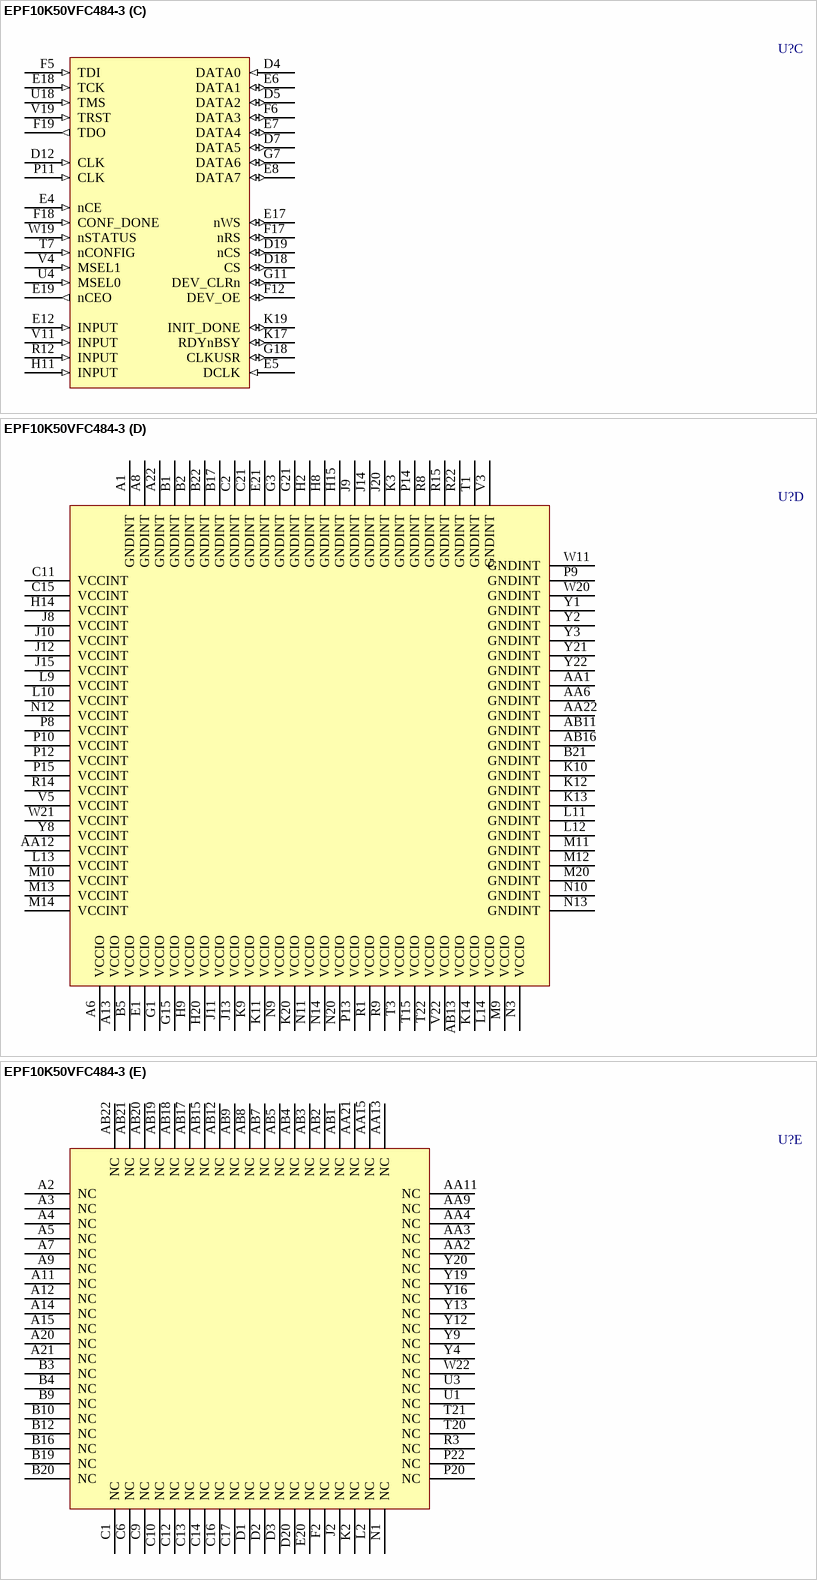
[diagram p169: symbol EPF10K50VFC484-3]

## EPF10K50VFC484-3
designator U?
FLEX EPF10K50V 3.3V Embedded PLD, 291 User IO Pins, 484-Pin FBGA, Speed Grade 3, Commercial Grade; Published: 17-Jul-2002; LatestRevisionDate: 13-Apr-2006; LatestRevisionNote: IPC-7351 Footprint Added.; DatasheetVersion: ver4.2, Jan-2003; PackageVersion: ver16.0, Dec-2009; PackageReference: FBGA484; Publisher: Altium Limited; PackageDescription: 484-Ball FineLine Ball Grid Array (FBGA484) - Flip Chip; Code_JEDEC: MS-034-AAJ-1; Code_IPC: BGA100P22X22-484; ComponentLink1Description: Manufacturer Link; ComponentLink1URL: http://www.altera.com/products/devices/flex10k/f10-index.html; ComponentLink2Description: Datasheet; ComponentLink2URL: http://www.altera.com/literature/ds/dsf10k.pdf
footprint FBGA484 (BGA, 484-Leads, Body 23x23mm, Pitch 1mm)
3D model EPF10K50V-FBGA484 (484-Ball FineLine Ball Grid Array (FBGA484) - Flip Chip)
part A pins: A10 I/O (io), A16 I/O (io), A17 I/O (io), A18 I/O (io), A19 I/O (io), B6 I/O (io), B7 I/O (io), B8 I/O (io), B11 I/O (io), B13 I/O (io), B14 I/O (io), B15 I/O (io), B18 I/O (io), C3 I/O (io), C4 I/O (io), C5 I/O (io), C7 I/O (io), C8 I/O (io), C18 I/O (io), C19 I/O (io), C20 I/O (io), C22 I/O (io), D6 I/O (io), D8 I/O (io), D9 I/O (io), D10 I/O (io), D11 I/O (io), D13 I/O (io), D14 I/O (io), D15 I/O (io), D16 I/O (io), D17 I/O (io), D21 I/O (io), D22 I/O (io), E2 I/O (io), E3 I/O (io), E9 I/O (io), E10 I/O (io), E11 I/O (io), E13 I/O (io), E14 I/O (io), E15 I/O (io), E16 I/O (io), E22 I/O (io), F1 I/O (io), F3 I/O (io), F4 I/O (io), F7 I/O (io), F8 I/O (io), F9 I/O (io), F10 I/O (io), F11 I/O (io), F13 I/O (io), F14 I/O (io), F15 I/O (io), F16 I/O (io), F20 I/O (io), F21 I/O (io), F22 I/O (io), G2 I/O (io), G4 I/O (io), G5 I/O (io), G6 I/O (io), G8 I/O (io), G9 I/O (io), G10 I/O (io), G12 I/O (io), G13 I/O (io), G14 I/O (io), G16 I/O (io), G17 I/O (io), G19 I/O (io), G20 I/O (io), G22 I/O (io), H1 I/O (io), H3 I/O (io), H4 I/O (io), H5 I/O (io), H6 I/O (io), H7 I/O (io), H10 I/O (io), H12 I/O (io), H13 I/O (io), H16 I/O (io), H17 I/O (io), H18 I/O (io), H19 I/O (io), H21 I/O (io), H22 I/O (io), J1 I/O (io), J3 I/O (io), J4 I/O (io), J5 I/O (io), J6 I/O (io), J7 I/O (io), J16 I/O (io), J17 I/O (io), J18 I/O (io), J19 I/O (io), J21 I/O (io), J22 I/O (io), K1 I/O (io), K4 I/O (io), K5 I/O (io), K6 I/O (io), K7 I/O (io), K8 I/O (io), K15 I/O (io), K16 I/O (io), K18 I/O (io), K21 I/O (io), K22 I/O (io), L1 I/O (io), L3 I/O (io), L4 I/O (io), L5 I/O (io), L6 I/O (io), L7 I/O (io), L8 I/O (io), L15 I/O (io), L16 I/O (io), L17 I/O (io), L18 I/O (io), L19 I/O (io), L20 I/O (io), L21 I/O (io), L22 I/O (io), M1 I/O (io), M2 I/O (io), M3 I/O (io), M4 I/O (io), M5 I/O (io), M6 I/O (io), M7 I/O (io), M8 I/O (io), M15 I/O (io), M16 I/O (io), M17 I/O (io), M18 I/O (io), M19 I/O (io), M21 I/O (io), M22 I/O (io), N2 I/O (io), N4 I/O (io)
part B pins: AA5 I/O (io), AA7 I/O (io), AA8 I/O (io), AA10 I/O (io), AA14 I/O (io), AA16 I/O (io), AA17 I/O (io), AA18 I/O (io), AA19 I/O (io), AA20 I/O (io), AB6 I/O (io), AB10 I/O (io), AB14 I/O (io), N5 I/O (io), N6 I/O (io), N7 I/O (io), N8 I/O (io), N15 I/O (io), N16 I/O (io), N17 I/O (io), N18 I/O (io), N19 I/O (io), N21 I/O (io), N22 I/O (io), P1 I/O (io), P2 I/O (io), P3 I/O (io), P4 I/O (io), P5 I/O (io), P6 I/O (io), P7 I/O (io), P16 I/O (io), P17 I/O (io), P18 I/O (io), P19 I/O (io), P21 I/O (io), R2 I/O (io), R4 I/O (io), R5 I/O (io), R6 I/O (io), R7 I/O (io), R10 I/O (io), R11 I/O (io), R13 I/O (io), R16 I/O (io), R17 I/O (io), R18 I/O (io), R19 I/O (io), R20 I/O (io), R21 I/O (io), T2 I/O (io), T4 I/O (io), T5 I/O (io), T6 I/O (io), T8 I/O (io), T9 I/O (io), T10 I/O (io), T11 I/O (io), T12 I/O (io), T13 I/O (io), T14 I/O (io), T16 I/O (io), T17 I/O (io), T18 I/O (io), T19 I/O (io), U2 I/O (io), U5 I/O (io), U6 I/O (io), U7 I/O (io), U8 I/O (io), U9 I/O (io), U10 I/O (io), U11 I/O (io), U12 I/O (io), U13 I/O (io), U14 I/O (io), U15 I/O (io), U16 I/O (io), U17 I/O (io), U19 I/O (io), U20 I/O (io), U21 I/O (io), U22 I/O (io), V1 I/O (io), V2 I/O (io), V6 I/O (io), V7 I/O (io), V8 I/O (io), V9 I/O (io), V10 I/O (io), V12 I/O (io), V13 I/O (io), V14 I/O (io), V15 I/O (io), V16 I/O (io), V17 I/O (io), V18 I/O (io), V20 I/O (io), V21 I/O (io), W1 I/O (io), W2 I/O (io), W3 I/O (io), W4 I/O (io), W5 I/O (io), W6 I/O (io), W7 I/O (io), W8 I/O (io), W9 I/O (io), W10 I/O (io), W12 I/O (io), W13 I/O (io), W14 I/O (io), W15 I/O (io), W16 I/O (io), W17 I/O (io), W18 I/O (io), Y5 I/O (io), Y6 I/O (io), Y7 I/O (io), Y10 I/O (io), Y11 I/O (io), Y14 I/O (io), Y15 I/O (io), Y17 I/O (io), Y18 I/O (io)
part C pins: D4 DATA0 (in), D5 DATA2 (io), D7 DATA5 (io), D12 CLK (in), D18 CS (io), D19 nCS (io), E4 nCE (in), E5 DCLK (in), E6 DATA1 (io), E7 DATA4 (io), E8 DATA7 (io), E12 INPUT (in), E17 nWS (io), E18 TCK (in), E19 nCEO (out), F5 TDI (in), F6 DATA3 (io), F12 DEV_OE (io), F17 nRS (io), F18 CONF_DONE (in), F19 TDO (out), G7 DATA6 (io), G11 DEV_CLRn (io), G18 CLKUSR (io), H11 INPUT (in), K17 RDYnBSY (io), K19 INIT_DONE (io), P11 CLK (in), R12 INPUT (in), T7 nCONFIG (in), U4 MSEL0 (in), U18 TMS (in), V4 MSEL1 (in), V11 INPUT (in), V19 TRST (in), W19 nSTATUS (in)
part D pins: A1 GNDINT (power), A6 VCCIO (power), A8 GNDINT (power), A13 VCCIO (power), A22 GNDINT (power), AA1 GNDINT (power), AA6 GNDINT (power), AA12 VCCINT (power), AA22 GNDINT (power), AB11 GNDINT (power), AB13 VCCIO (power), AB16 GNDINT (power), B1 GNDINT (power), B2 GNDINT (power), B5 VCCIO (power), B17 GNDINT (power), B21 GNDINT (power), B22 GNDINT (power), C2 GNDINT (power), C11 VCCINT (power), C15 VCCINT (power), C21 GNDINT (power), E1 VCCIO (power), E21 GNDINT (power), G1 VCCIO (power), G3 GNDINT (power), G15 VCCIO (power), G21 GNDINT (power), H2 GNDINT (power), H8 GNDINT (power), H9 VCCIO (power), H14 VCCINT (power), H15 GNDINT (power), H20 VCCIO (power), J8 VCCINT (power), J9 GNDINT (power), J10 VCCINT (power), J11 VCCIO (power), J12 VCCINT (power), J13 VCCIO (power), J14 GNDINT (power), J15 VCCINT (power), J20 GNDINT (power), K3 GNDINT (power), K9 VCCIO (power), K10 GNDINT (power), K11 VCCIO (power), K12 GNDINT (power), K13 GNDINT (power), K14 VCCIO (power), K20 VCCIO (power), L9 VCCINT (power), L10 VCCINT (power), L11 GNDINT (power), L12 GNDINT (power), L13 VCCINT (power), L14 VCCIO (power), M9 VCCIO (power), M10 VCCINT (power), M11 GNDINT (power), M12 GNDINT (power), M13 VCCINT (power), M14 VCCINT (power), M20 GNDINT (power), N3 VCCIO (power), N9 VCCIO (power), N10 GNDINT (power), N11 VCCIO (power), N12 VCCINT (power), N13 GNDINT (power), N14 VCCIO (power), N20 VCCIO (power), P8 VCCINT (power), P9 GNDINT (power), P10 VCCINT (power), P12 VCCINT (power), P13 VCCIO (power), P14 GNDINT (power), P15 VCCINT (power), R1 VCCIO (power), R8 GNDINT (power), R9 VCCIO (power), R14 VCCINT (power), R15 GNDINT (power), R22 GNDINT (power), T1 GNDINT (power), T3 VCCIO (power), T15 VCCIO (power), T22 VCCIO (power), V3 GNDINT (power), V5 VCCINT (power), V22 VCCIO (power), W11 GNDINT (power), W20 GNDINT (power), W21 VCCINT (power), Y1 GNDINT (power), Y2 GNDINT (power), Y3 GNDINT (power), Y8 VCCINT (power), Y21 GNDINT (power), Y22 GNDINT (power)
part E pins: A2 NC, A3 NC, A4 NC, A5 NC, A7 NC, A9 NC, A11 NC, A12 NC, A14 NC, A15 NC, A20 NC, A21 NC, AA2 NC, AA3 NC, AA4 NC, AA9 NC, AA11 NC, AA13 NC, AA15 NC, AA21 NC, AB1 NC, AB2 NC, AB3 NC, AB4 NC, AB5 NC, AB7 NC, AB8 NC, AB9 NC, AB12 NC, AB15 NC, AB17 NC, AB18 NC, AB19 NC, AB20 NC, AB21 NC, AB22 NC, B3 NC, B4 NC, B9 NC, B10 NC, B12 NC, B16 NC, B19 NC, B20 NC, C1 NC, C6 NC, C9 NC, C10 NC, C12 NC, C13 NC, C14 NC, C16 NC, C17 NC, D1 NC, D2 NC, D3 NC, D20 NC, E20 NC, F2 NC, J2 NC, K2 NC, L2 NC, N1 NC, P20 NC, P22 NC, R3 NC, T20 NC, T21 NC, U1 NC, U3 NC, W22 NC, Y4 NC, Y9 NC, Y12 NC, Y13 NC, Y16 NC, Y19 NC, Y20 NC

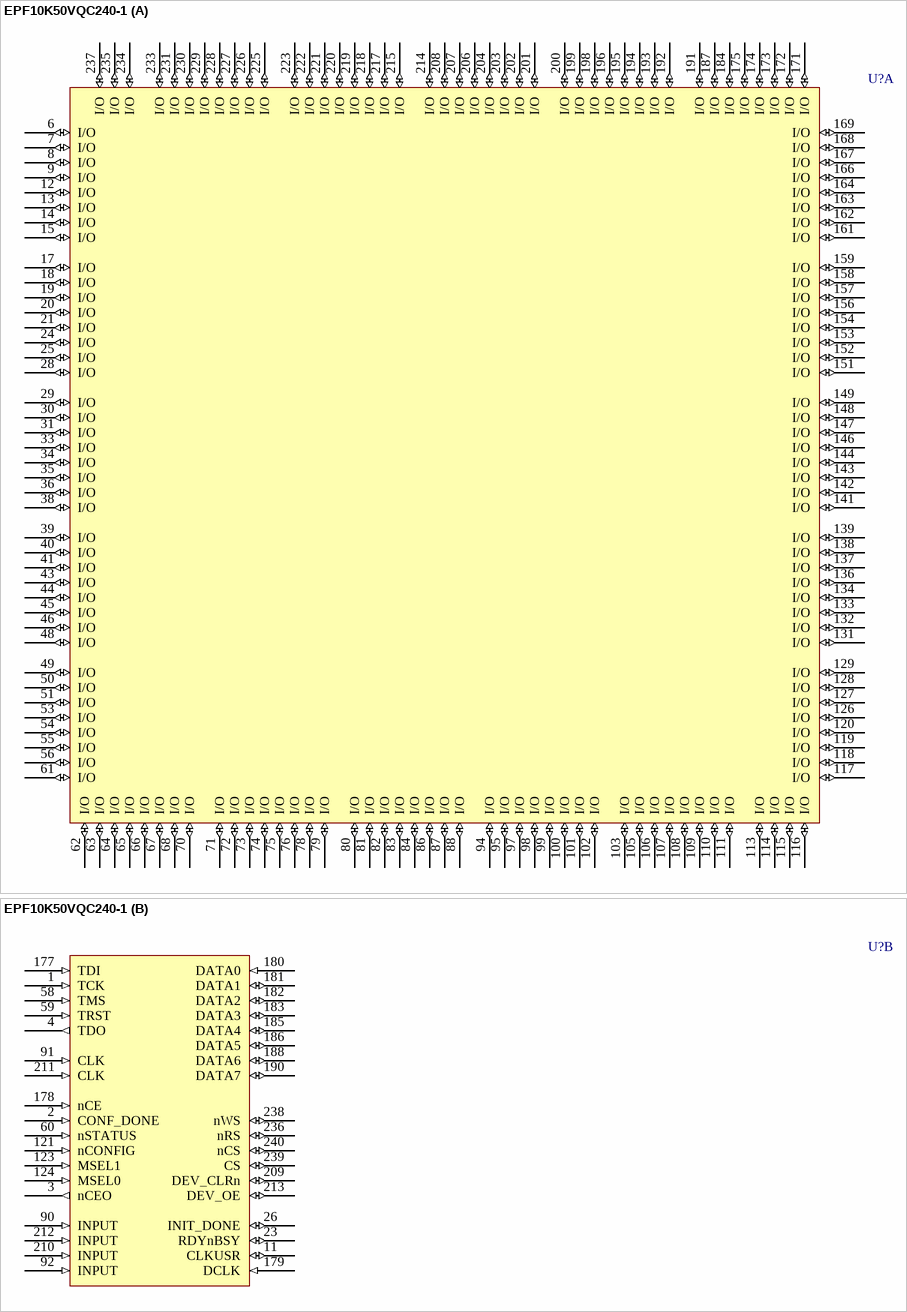
[diagram p170: symbol EPF10K50VQC240-1]

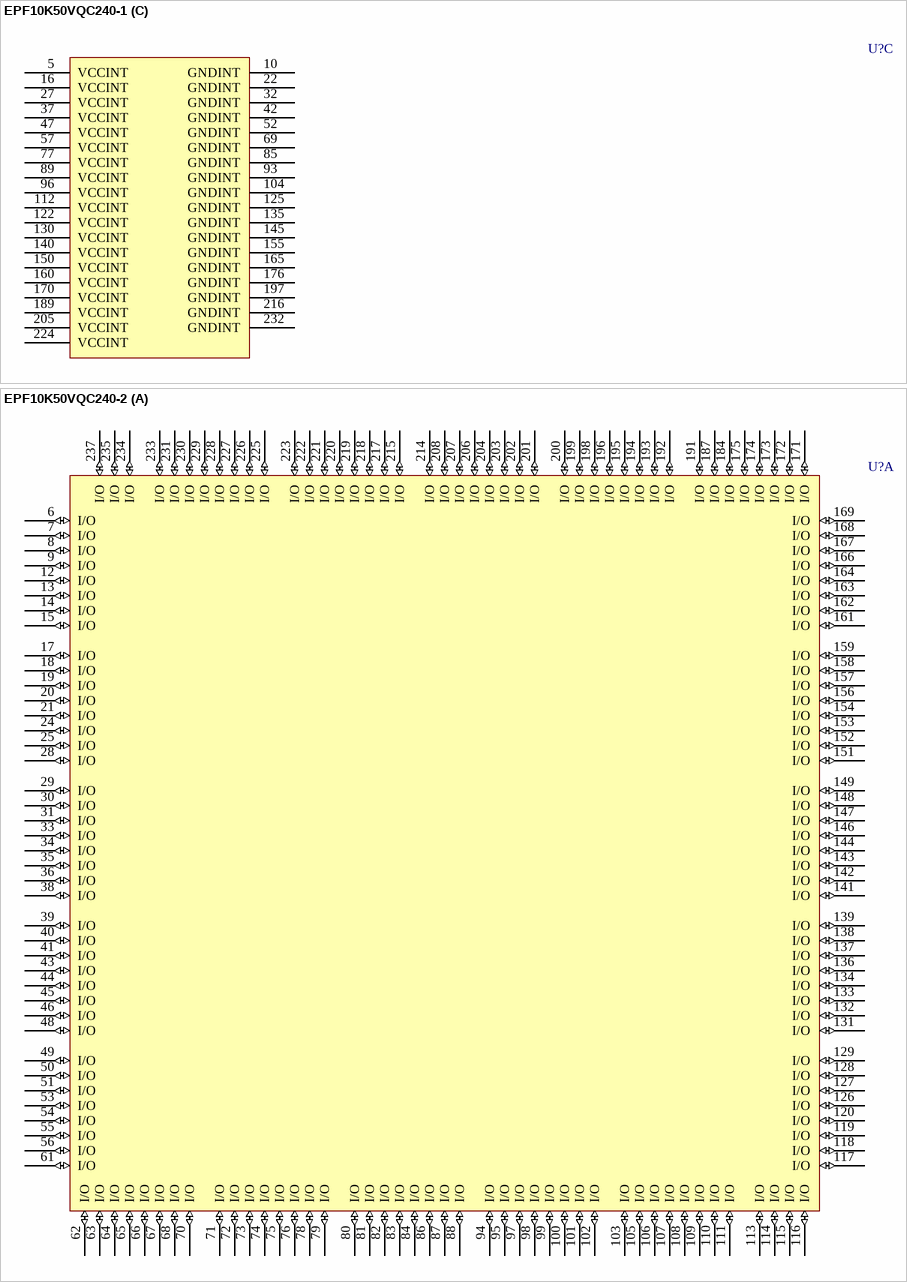
[diagram p171: symbols EPF10K50VQC240-1 to EPF10K50VQC240-2]

## EPF10K50VQC240-1
designator U?
FLEX EPF10K50V 3.3V Embedded PLD, 189 User IO Pins, 240-Pin PQFP, Speed Grade 1, Commercial Grade; Published: 17-Jul-2002; LatestRevisionDate: 13-Apr-2006; LatestRevisionNote: IPC-7351 Footprint Added.; DatasheetVersion: ver4.2, Jan-2003; PackageVersion: ver15.4, Dec-2008; PackageReference: PQFP240; Publisher: Altium Limited; PackageDescription: 240-Pin Plastic Quad Flat Pack (PQFP240) - Wire Bond; Code_JEDEC: MS-029-GA; ComponentLink1Description: Manufacturer Link; ComponentLink1URL: http://www.altera.com/products/devices/flex10k/f10-index.html; ComponentLink2Description: Datasheet; ComponentLink2URL: http://www.altera.com/literature/ds/dsf10k.pdf
footprint PQFP240_N (Shrink QFP, 240-Leads, Body 32x32mm, Pitch 0.5mm, IPC Medium Density)
footprint PQFP240_L (Shrink QFP, 240-Leads, Body 32x32mm, Pitch 0.5mm, IPC High Density)
footprint PQFP240_M (Shrink QFP, 240-Leads, Body 32x32mm, Pitch 0.5mm, IPC Low Density)
3D model EPF10K50V-PQFP240 (240-Pin Plastic Quad Flat Pack (PQFP240) - Wire Bond)
part A pins: 6 I/O (io), 7 I/O (io), 8 I/O (io), 9 I/O (io), 12 I/O (io), 13 I/O (io), 14 I/O (io), 15 I/O (io), 17 I/O (io), 18 I/O (io), 19 I/O (io), 20 I/O (io), 21 I/O (io), 24 I/O (io), 25 I/O (io), 28 I/O (io), 29 I/O (io), 30 I/O (io), 31 I/O (io), 33 I/O (io), 34 I/O (io), 35 I/O (io), 36 I/O (io), 38 I/O (io), 39 I/O (io), 40 I/O (io), 41 I/O (io), 43 I/O (io), 44 I/O (io), 45 I/O (io), 46 I/O (io), 48 I/O (io), 49 I/O (io), 50 I/O (io), 51 I/O (io), 53 I/O (io), 54 I/O (io), 55 I/O (io), 56 I/O (io), 61 I/O (io), 62 I/O (io), 63 I/O (io), 64 I/O (io), 65 I/O (io), 66 I/O (io), 67 I/O (io), 68 I/O (io), 70 I/O (io), 71 I/O (io), 72 I/O (io), 73 I/O (io), 74 I/O (io), 75 I/O (io), 76 I/O (io), 78 I/O (io), 79 I/O (io), 80 I/O (io), 81 I/O (io), 82 I/O (io), 83 I/O (io), 84 I/O (io), 86 I/O (io), 87 I/O (io), 88 I/O (io), 94 I/O (io), 95 I/O (io), 97 I/O (io), 98 I/O (io), 99 I/O (io), 100 I/O (io), 101 I/O (io), 102 I/O (io), 103 I/O (io), 105 I/O (io), 106 I/O (io), 107 I/O (io), 108 I/O (io), 109 I/O (io), 110 I/O (io), 111 I/O (io), 113 I/O (io), 114 I/O (io), 115 I/O (io), 116 I/O (io), 117 I/O (io), 118 I/O (io), 119 I/O (io), 120 I/O (io), 126 I/O (io), 127 I/O (io), 128 I/O (io), 129 I/O (io), 131 I/O (io), 132 I/O (io), 133 I/O (io), 134 I/O (io), 136 I/O (io), 137 I/O (io), 138 I/O (io), 139 I/O (io), 141 I/O (io), 142 I/O (io), 143 I/O (io), 144 I/O (io), 146 I/O (io), 147 I/O (io), 148 I/O (io), 149 I/O (io), 151 I/O (io), 152 I/O (io), 153 I/O (io), 154 I/O (io), 156 I/O (io), 157 I/O (io), 158 I/O (io), 159 I/O (io), 161 I/O (io), 162 I/O (io), 163 I/O (io), 164 I/O (io), 166 I/O (io), 167 I/O (io), 168 I/O (io), 169 I/O (io), 171 I/O (io), 172 I/O (io), 173 I/O (io), 174 I/O (io), 175 I/O (io), 184 I/O (io), 187 I/O (io), 191 I/O (io), 192 I/O (io), 193 I/O (io), 194 I/O (io), 195 I/O (io), 196 I/O (io), 198 I/O (io), 199 I/O (io), 200 I/O (io), 201 I/O (io), 202 I/O (io), 203 I/O (io), 204 I/O (io), 206 I/O (io), 207 I/O (io), 208 I/O (io), 214 I/O (io), 215 I/O (io), 217 I/O (io), 218 I/O (io), 219 I/O (io), 220 I/O (io), 221 I/O (io), 222 I/O (io), 223 I/O (io), 225 I/O (io), 226 I/O (io), 227 I/O (io), 228 I/O (io), 229 I/O (io), 230 I/O (io), 231 I/O (io), 233 I/O (io), 234 I/O (io), 235 I/O (io), 237 I/O (io)
part B pins: 1 TCK (in), 2 CONF_DONE (in), 3 nCEO (out), 4 TDO (out), 11 CLKUSR (io), 23 RDYnBSY (io), 26 INIT_DONE (io), 58 TMS (in), 59 TRST (in), 60 nSTATUS (in), 90 INPUT (in), 91 CLK (in), 92 INPUT (in), 121 nCONFIG (in), 123 MSEL1 (in), 124 MSEL0 (in), 177 TDI (in), 178 nCE (in), 179 DCLK (in), 180 DATA0 (in), 181 DATA1 (io), 182 DATA2 (io), 183 DATA3 (io), 185 DATA4 (io), 186 DATA5 (io), 188 DATA6 (io), 190 DATA7 (io), 209 DEV_CLRn (io), 210 INPUT (in), 211 CLK (in), 212 INPUT (in), 213 DEV_OE (io), 236 nRS (io), 238 nWS (io), 239 CS (io), 240 nCS (io)
part C pins: 5 VCCINT (power), 10 GNDINT (power), 16 VCCINT (power), 22 GNDINT (power), 27 VCCINT (power), 32 GNDINT (power), 37 VCCINT (power), 42 GNDINT (power), 47 VCCINT (power), 52 GNDINT (power), 57 VCCINT (power), 69 GNDINT (power), 77 VCCINT (power), 85 GNDINT (power), 89 VCCINT (power), 93 GNDINT (power), 96 VCCINT (power), 104 GNDINT (power), 112 VCCINT (power), 122 VCCINT (power), 125 GNDINT (power), 130 VCCINT (power), 135 GNDINT (power), 140 VCCINT (power), 145 GNDINT (power), 150 VCCINT (power), 155 GNDINT (power), 160 VCCINT (power), 165 GNDINT (power), 170 VCCINT (power), 176 GNDINT (power), 189 VCCINT (power), 197 GNDINT (power), 205 VCCINT (power), 216 GNDINT (power), 224 VCCINT (power), 232 GNDINT (power)

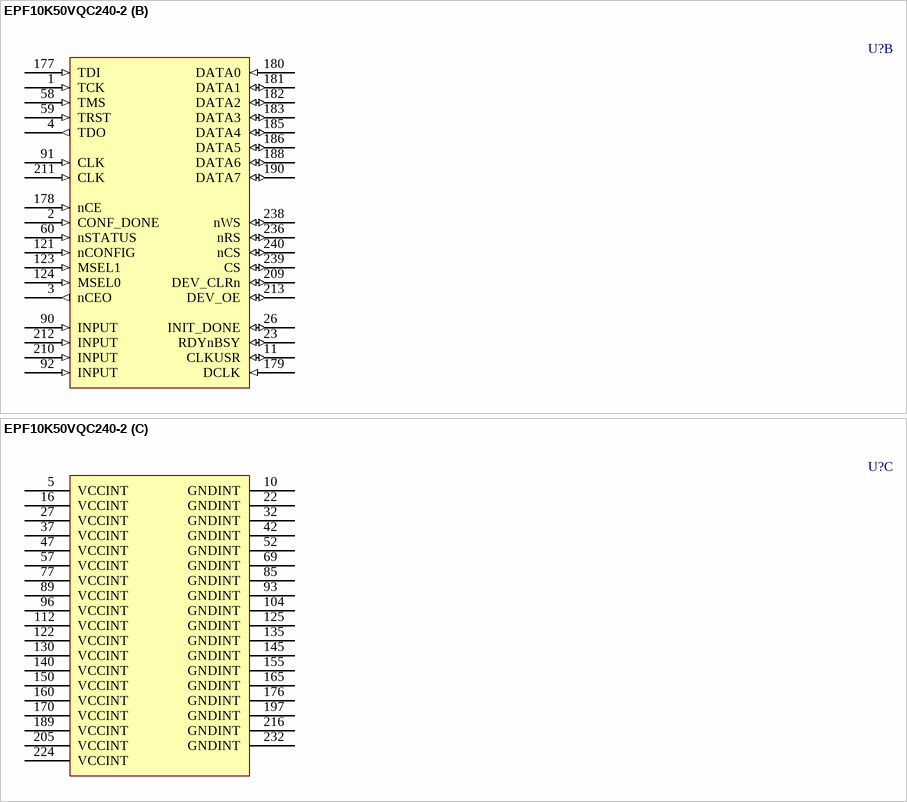
[diagram p172: symbol EPF10K50VQC240-2]

## EPF10K50VQC240-2
designator U?
FLEX EPF10K50V 3.3V Embedded PLD, 189 User IO Pins, 240-Pin PQFP, Speed Grade 2, Commercial Grade; Published: 17-Jul-2002; LatestRevisionDate: 13-Apr-2006; LatestRevisionNote: IPC-7351 Footprint Added.; DatasheetVersion: ver4.2, Jan-2003; PackageVersion: ver15.4, Dec-2008; PackageReference: PQFP240; Publisher: Altium Limited; PackageDescription: 240-Pin Plastic Quad Flat Pack (PQFP240) - Wire Bond; Code_JEDEC: MS-029-GA; ComponentLink1Description: Manufacturer Link; ComponentLink1URL: http://www.altera.com/products/devices/flex10k/f10-index.html; ComponentLink2Description: Datasheet; ComponentLink2URL: http://www.altera.com/literature/ds/dsf10k.pdf
footprint PQFP240_N (Shrink QFP, 240-Leads, Body 32x32mm, Pitch 0.5mm, IPC Medium Density)
footprint PQFP240_L (Shrink QFP, 240-Leads, Body 32x32mm, Pitch 0.5mm, IPC High Density)
footprint PQFP240_M (Shrink QFP, 240-Leads, Body 32x32mm, Pitch 0.5mm, IPC Low Density)
3D model EPF10K50V-PQFP240 (240-Pin Plastic Quad Flat Pack (PQFP240) - Wire Bond)
part A pins: 6 I/O (io), 7 I/O (io), 8 I/O (io), 9 I/O (io), 12 I/O (io), 13 I/O (io), 14 I/O (io), 15 I/O (io), 17 I/O (io), 18 I/O (io), 19 I/O (io), 20 I/O (io), 21 I/O (io), 24 I/O (io), 25 I/O (io), 28 I/O (io), 29 I/O (io), 30 I/O (io), 31 I/O (io), 33 I/O (io), 34 I/O (io), 35 I/O (io), 36 I/O (io), 38 I/O (io), 39 I/O (io), 40 I/O (io), 41 I/O (io), 43 I/O (io), 44 I/O (io), 45 I/O (io), 46 I/O (io), 48 I/O (io), 49 I/O (io), 50 I/O (io), 51 I/O (io), 53 I/O (io), 54 I/O (io), 55 I/O (io), 56 I/O (io), 61 I/O (io), 62 I/O (io), 63 I/O (io), 64 I/O (io), 65 I/O (io), 66 I/O (io), 67 I/O (io), 68 I/O (io), 70 I/O (io), 71 I/O (io), 72 I/O (io), 73 I/O (io), 74 I/O (io), 75 I/O (io), 76 I/O (io), 78 I/O (io), 79 I/O (io), 80 I/O (io), 81 I/O (io), 82 I/O (io), 83 I/O (io), 84 I/O (io), 86 I/O (io), 87 I/O (io), 88 I/O (io), 94 I/O (io), 95 I/O (io), 97 I/O (io), 98 I/O (io), 99 I/O (io), 100 I/O (io), 101 I/O (io), 102 I/O (io), 103 I/O (io), 105 I/O (io), 106 I/O (io), 107 I/O (io), 108 I/O (io), 109 I/O (io), 110 I/O (io), 111 I/O (io), 113 I/O (io), 114 I/O (io), 115 I/O (io), 116 I/O (io), 117 I/O (io), 118 I/O (io), 119 I/O (io), 120 I/O (io), 126 I/O (io), 127 I/O (io), 128 I/O (io), 129 I/O (io), 131 I/O (io), 132 I/O (io), 133 I/O (io), 134 I/O (io), 136 I/O (io), 137 I/O (io), 138 I/O (io), 139 I/O (io), 141 I/O (io), 142 I/O (io), 143 I/O (io), 144 I/O (io), 146 I/O (io), 147 I/O (io), 148 I/O (io), 149 I/O (io), 151 I/O (io), 152 I/O (io), 153 I/O (io), 154 I/O (io), 156 I/O (io), 157 I/O (io), 158 I/O (io), 159 I/O (io), 161 I/O (io), 162 I/O (io), 163 I/O (io), 164 I/O (io), 166 I/O (io), 167 I/O (io), 168 I/O (io), 169 I/O (io), 171 I/O (io), 172 I/O (io), 173 I/O (io), 174 I/O (io), 175 I/O (io), 184 I/O (io), 187 I/O (io), 191 I/O (io), 192 I/O (io), 193 I/O (io), 194 I/O (io), 195 I/O (io), 196 I/O (io), 198 I/O (io), 199 I/O (io), 200 I/O (io), 201 I/O (io), 202 I/O (io), 203 I/O (io), 204 I/O (io), 206 I/O (io), 207 I/O (io), 208 I/O (io), 214 I/O (io), 215 I/O (io), 217 I/O (io), 218 I/O (io), 219 I/O (io), 220 I/O (io), 221 I/O (io), 222 I/O (io), 223 I/O (io), 225 I/O (io), 226 I/O (io), 227 I/O (io), 228 I/O (io), 229 I/O (io), 230 I/O (io), 231 I/O (io), 233 I/O (io), 234 I/O (io), 235 I/O (io), 237 I/O (io)
part B pins: 1 TCK (in), 2 CONF_DONE (in), 3 nCEO (out), 4 TDO (out), 11 CLKUSR (io), 23 RDYnBSY (io), 26 INIT_DONE (io), 58 TMS (in), 59 TRST (in), 60 nSTATUS (in), 90 INPUT (in), 91 CLK (in), 92 INPUT (in), 121 nCONFIG (in), 123 MSEL1 (in), 124 MSEL0 (in), 177 TDI (in), 178 nCE (in), 179 DCLK (in), 180 DATA0 (in), 181 DATA1 (io), 182 DATA2 (io), 183 DATA3 (io), 185 DATA4 (io), 186 DATA5 (io), 188 DATA6 (io), 190 DATA7 (io), 209 DEV_CLRn (io), 210 INPUT (in), 211 CLK (in), 212 INPUT (in), 213 DEV_OE (io), 236 nRS (io), 238 nWS (io), 239 CS (io), 240 nCS (io)
part C pins: 5 VCCINT (power), 10 GNDINT (power), 16 VCCINT (power), 22 GNDINT (power), 27 VCCINT (power), 32 GNDINT (power), 37 VCCINT (power), 42 GNDINT (power), 47 VCCINT (power), 52 GNDINT (power), 57 VCCINT (power), 69 GNDINT (power), 77 VCCINT (power), 85 GNDINT (power), 89 VCCINT (power), 93 GNDINT (power), 96 VCCINT (power), 104 GNDINT (power), 112 VCCINT (power), 122 VCCINT (power), 125 GNDINT (power), 130 VCCINT (power), 135 GNDINT (power), 140 VCCINT (power), 145 GNDINT (power), 150 VCCINT (power), 155 GNDINT (power), 160 VCCINT (power), 165 GNDINT (power), 170 VCCINT (power), 176 GNDINT (power), 189 VCCINT (power), 197 GNDINT (power), 205 VCCINT (power), 216 GNDINT (power), 224 VCCINT (power), 232 GNDINT (power)

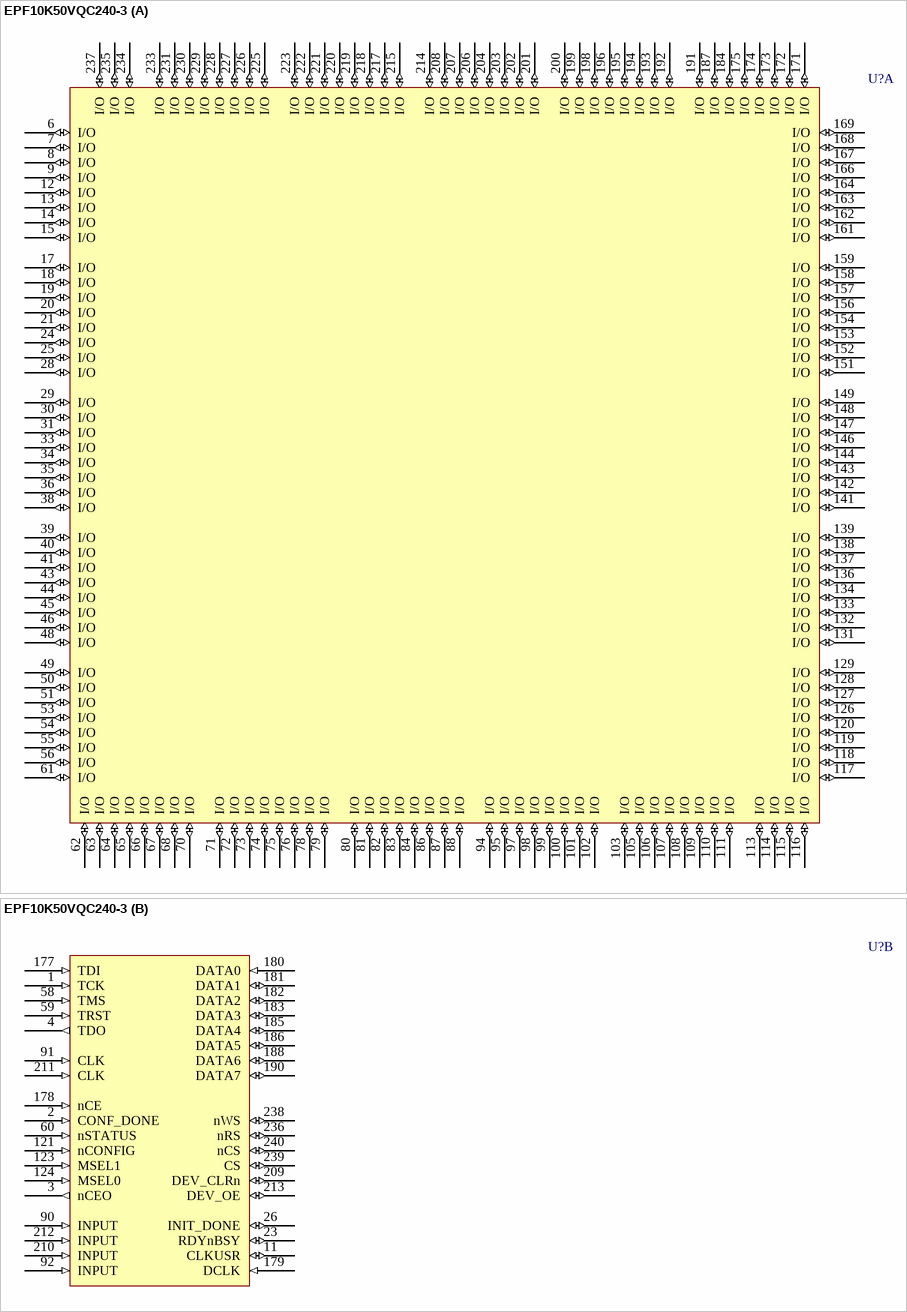
[diagram p173: symbol EPF10K50VQC240-3]

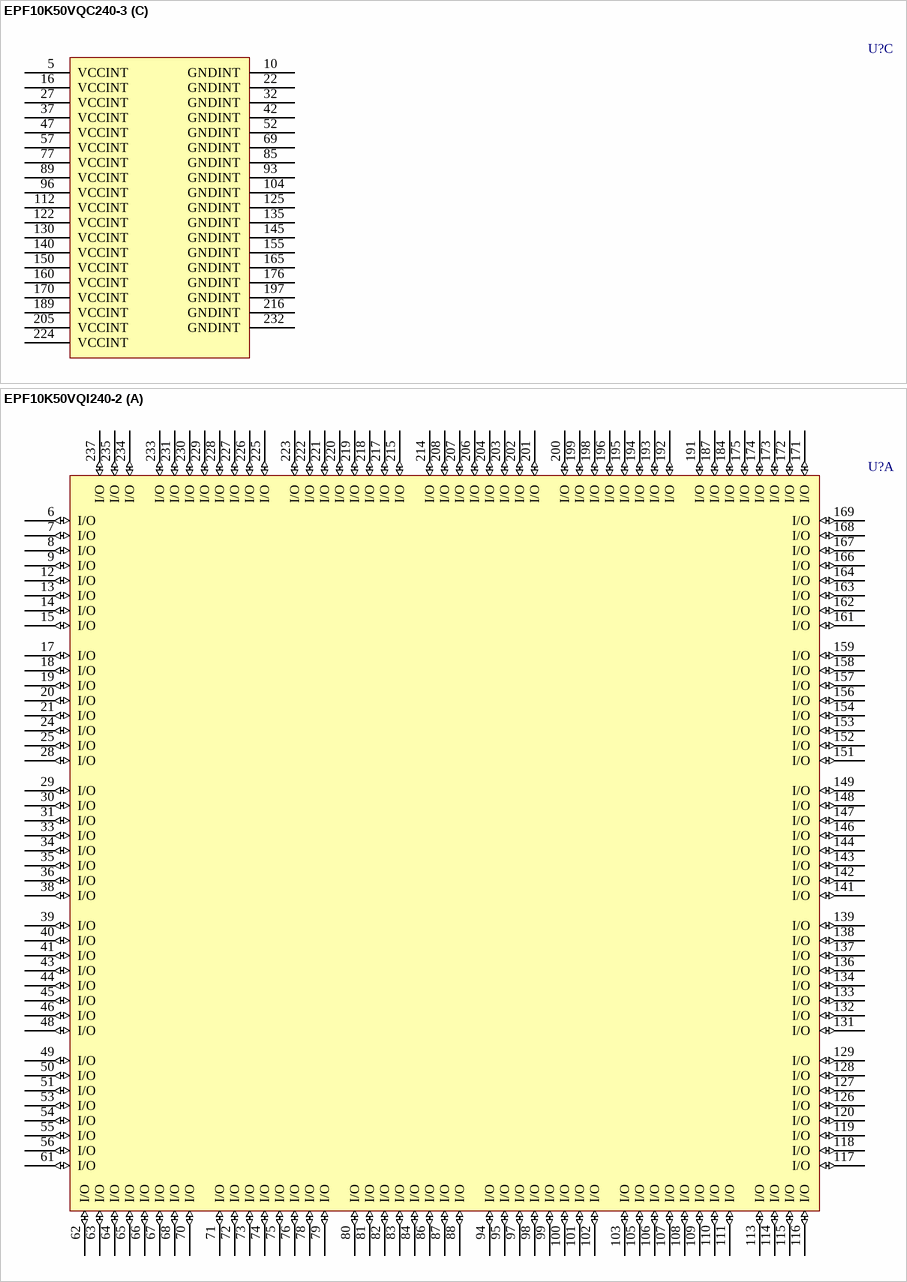
[diagram p174: symbols EPF10K50VQC240-3 to EPF10K50VQI240-2]

## EPF10K50VQC240-3
designator U?
FLEX EPF10K50V 3.3V Embedded PLD, 189 User IO Pins, 240-Pin PQFP, Speed Grade 3, Commercial Grade; Published: 17-Jul-2002; LatestRevisionDate: 13-Apr-2006; LatestRevisionNote: IPC-7351 Footprint Added.; DatasheetVersion: ver4.2, Jan-2003; PackageVersion: ver15.4, Dec-2008; PackageReference: PQFP240; Publisher: Altium Limited; PackageDescription: 240-Pin Plastic Quad Flat Pack (PQFP240) - Wire Bond; Supplier 1: Digi-Key; Supplier Part Number 1: 544-2242-ND; Code_JEDEC: MS-029-GA; ComponentLink1Description: Manufacturer Link; ComponentLink1URL: http://www.altera.com/products/devices/flex10k/f10-index.html; ComponentLink2Description: Datasheet; ComponentLink2URL: http://www.altera.com/literature/ds/dsf10k.pdf
footprint PQFP240_N (Shrink QFP, 240-Leads, Body 32x32mm, Pitch 0.5mm, IPC Medium Density)
footprint PQFP240_L (Shrink QFP, 240-Leads, Body 32x32mm, Pitch 0.5mm, IPC High Density)
footprint PQFP240_M (Shrink QFP, 240-Leads, Body 32x32mm, Pitch 0.5mm, IPC Low Density)
3D model EPF10K50V-PQFP240 (240-Pin Plastic Quad Flat Pack (PQFP240) - Wire Bond)
part A pins: 6 I/O (io), 7 I/O (io), 8 I/O (io), 9 I/O (io), 12 I/O (io), 13 I/O (io), 14 I/O (io), 15 I/O (io), 17 I/O (io), 18 I/O (io), 19 I/O (io), 20 I/O (io), 21 I/O (io), 24 I/O (io), 25 I/O (io), 28 I/O (io), 29 I/O (io), 30 I/O (io), 31 I/O (io), 33 I/O (io), 34 I/O (io), 35 I/O (io), 36 I/O (io), 38 I/O (io), 39 I/O (io), 40 I/O (io), 41 I/O (io), 43 I/O (io), 44 I/O (io), 45 I/O (io), 46 I/O (io), 48 I/O (io), 49 I/O (io), 50 I/O (io), 51 I/O (io), 53 I/O (io), 54 I/O (io), 55 I/O (io), 56 I/O (io), 61 I/O (io), 62 I/O (io), 63 I/O (io), 64 I/O (io), 65 I/O (io), 66 I/O (io), 67 I/O (io), 68 I/O (io), 70 I/O (io), 71 I/O (io), 72 I/O (io), 73 I/O (io), 74 I/O (io), 75 I/O (io), 76 I/O (io), 78 I/O (io), 79 I/O (io), 80 I/O (io), 81 I/O (io), 82 I/O (io), 83 I/O (io), 84 I/O (io), 86 I/O (io), 87 I/O (io), 88 I/O (io), 94 I/O (io), 95 I/O (io), 97 I/O (io), 98 I/O (io), 99 I/O (io), 100 I/O (io), 101 I/O (io), 102 I/O (io), 103 I/O (io), 105 I/O (io), 106 I/O (io), 107 I/O (io), 108 I/O (io), 109 I/O (io), 110 I/O (io), 111 I/O (io), 113 I/O (io), 114 I/O (io), 115 I/O (io), 116 I/O (io), 117 I/O (io), 118 I/O (io), 119 I/O (io), 120 I/O (io), 126 I/O (io), 127 I/O (io), 128 I/O (io), 129 I/O (io), 131 I/O (io), 132 I/O (io), 133 I/O (io), 134 I/O (io), 136 I/O (io), 137 I/O (io), 138 I/O (io), 139 I/O (io), 141 I/O (io), 142 I/O (io), 143 I/O (io), 144 I/O (io), 146 I/O (io), 147 I/O (io), 148 I/O (io), 149 I/O (io), 151 I/O (io), 152 I/O (io), 153 I/O (io), 154 I/O (io), 156 I/O (io), 157 I/O (io), 158 I/O (io), 159 I/O (io), 161 I/O (io), 162 I/O (io), 163 I/O (io), 164 I/O (io), 166 I/O (io), 167 I/O (io), 168 I/O (io), 169 I/O (io), 171 I/O (io), 172 I/O (io), 173 I/O (io), 174 I/O (io), 175 I/O (io), 184 I/O (io), 187 I/O (io), 191 I/O (io), 192 I/O (io), 193 I/O (io), 194 I/O (io), 195 I/O (io), 196 I/O (io), 198 I/O (io), 199 I/O (io), 200 I/O (io), 201 I/O (io), 202 I/O (io), 203 I/O (io), 204 I/O (io), 206 I/O (io), 207 I/O (io), 208 I/O (io), 214 I/O (io), 215 I/O (io), 217 I/O (io), 218 I/O (io), 219 I/O (io), 220 I/O (io), 221 I/O (io), 222 I/O (io), 223 I/O (io), 225 I/O (io), 226 I/O (io), 227 I/O (io), 228 I/O (io), 229 I/O (io), 230 I/O (io), 231 I/O (io), 233 I/O (io), 234 I/O (io), 235 I/O (io), 237 I/O (io)
part B pins: 1 TCK (in), 2 CONF_DONE (in), 3 nCEO (out), 4 TDO (out), 11 CLKUSR (io), 23 RDYnBSY (io), 26 INIT_DONE (io), 58 TMS (in), 59 TRST (in), 60 nSTATUS (in), 90 INPUT (in), 91 CLK (in), 92 INPUT (in), 121 nCONFIG (in), 123 MSEL1 (in), 124 MSEL0 (in), 177 TDI (in), 178 nCE (in), 179 DCLK (in), 180 DATA0 (in), 181 DATA1 (io), 182 DATA2 (io), 183 DATA3 (io), 185 DATA4 (io), 186 DATA5 (io), 188 DATA6 (io), 190 DATA7 (io), 209 DEV_CLRn (io), 210 INPUT (in), 211 CLK (in), 212 INPUT (in), 213 DEV_OE (io), 236 nRS (io), 238 nWS (io), 239 CS (io), 240 nCS (io)
part C pins: 5 VCCINT (power), 10 GNDINT (power), 16 VCCINT (power), 22 GNDINT (power), 27 VCCINT (power), 32 GNDINT (power), 37 VCCINT (power), 42 GNDINT (power), 47 VCCINT (power), 52 GNDINT (power), 57 VCCINT (power), 69 GNDINT (power), 77 VCCINT (power), 85 GNDINT (power), 89 VCCINT (power), 93 GNDINT (power), 96 VCCINT (power), 104 GNDINT (power), 112 VCCINT (power), 122 VCCINT (power), 125 GNDINT (power), 130 VCCINT (power), 135 GNDINT (power), 140 VCCINT (power), 145 GNDINT (power), 150 VCCINT (power), 155 GNDINT (power), 160 VCCINT (power), 165 GNDINT (power), 170 VCCINT (power), 176 GNDINT (power), 189 VCCINT (power), 197 GNDINT (power), 205 VCCINT (power), 216 GNDINT (power), 224 VCCINT (power), 232 GNDINT (power)

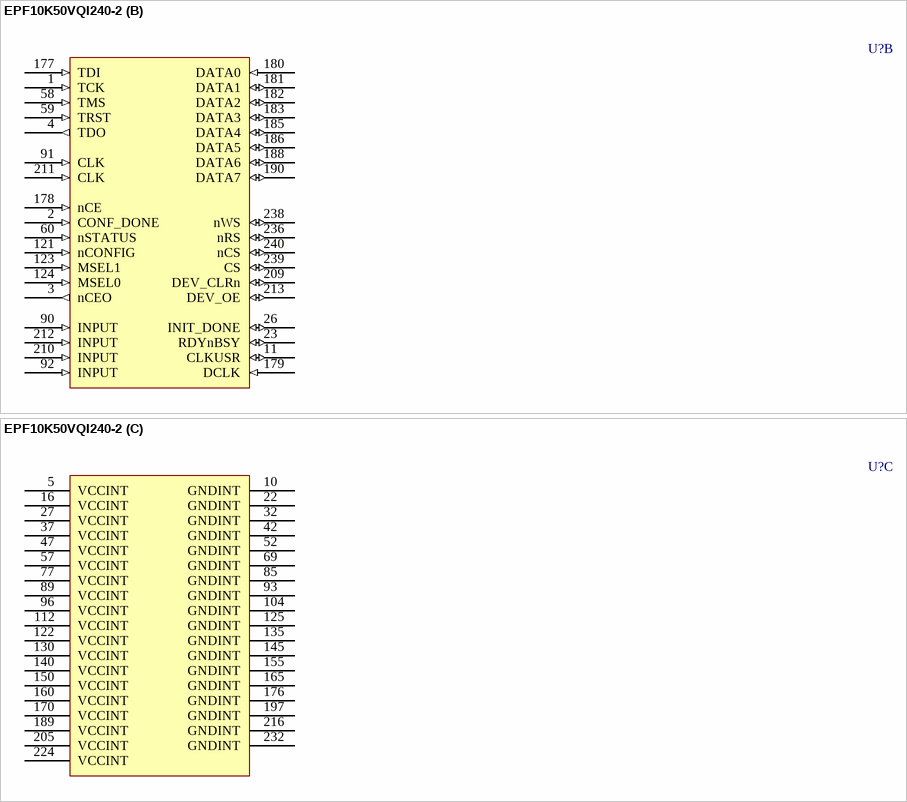
[diagram p175: symbol EPF10K50VQI240-2]

## EPF10K50VQI240-2
designator U?
FLEX EPF10K50V 3.3V Embedded PLD, 189 User IO Pins, 240-Pin PQFP, Speed Grade 2, Industrial Grade; Published: 17-Jul-2002; LatestRevisionDate: 13-Apr-2006; LatestRevisionNote: IPC-7351 Footprint Added.; DatasheetVersion: ver4.2, Jan-2003; PackageVersion: ver15.4, Dec-2008; PackageReference: PQFP240; Publisher: Altium Limited; PackageDescription: 240-Pin Plastic Quad Flat Pack (PQFP240) - Wire Bond; Supplier 1: Digi-Key; Supplier Part Number 1: EPF10K50VQI240-2-ND; Code_JEDEC: MS-029-GA; ComponentLink1Description: Manufacturer Link; ComponentLink1URL: http://www.altera.com/products/devices/flex10k/f10-index.html; ComponentLink2Description: Datasheet; ComponentLink2URL: http://www.altera.com/literature/ds/dsf10k.pdf
footprint PQFP240_N (Shrink QFP, 240-Leads, Body 32x32mm, Pitch 0.5mm, IPC Medium Density)
footprint PQFP240_L (Shrink QFP, 240-Leads, Body 32x32mm, Pitch 0.5mm, IPC High Density)
footprint PQFP240_M (Shrink QFP, 240-Leads, Body 32x32mm, Pitch 0.5mm, IPC Low Density)
3D model EPF10K50V-PQFP240 (240-Pin Plastic Quad Flat Pack (PQFP240) - Wire Bond)
part A pins: 6 I/O (io), 7 I/O (io), 8 I/O (io), 9 I/O (io), 12 I/O (io), 13 I/O (io), 14 I/O (io), 15 I/O (io), 17 I/O (io), 18 I/O (io), 19 I/O (io), 20 I/O (io), 21 I/O (io), 24 I/O (io), 25 I/O (io), 28 I/O (io), 29 I/O (io), 30 I/O (io), 31 I/O (io), 33 I/O (io), 34 I/O (io), 35 I/O (io), 36 I/O (io), 38 I/O (io), 39 I/O (io), 40 I/O (io), 41 I/O (io), 43 I/O (io), 44 I/O (io), 45 I/O (io), 46 I/O (io), 48 I/O (io), 49 I/O (io), 50 I/O (io), 51 I/O (io), 53 I/O (io), 54 I/O (io), 55 I/O (io), 56 I/O (io), 61 I/O (io), 62 I/O (io), 63 I/O (io), 64 I/O (io), 65 I/O (io), 66 I/O (io), 67 I/O (io), 68 I/O (io), 70 I/O (io), 71 I/O (io), 72 I/O (io), 73 I/O (io), 74 I/O (io), 75 I/O (io), 76 I/O (io), 78 I/O (io), 79 I/O (io), 80 I/O (io), 81 I/O (io), 82 I/O (io), 83 I/O (io), 84 I/O (io), 86 I/O (io), 87 I/O (io), 88 I/O (io), 94 I/O (io), 95 I/O (io), 97 I/O (io), 98 I/O (io), 99 I/O (io), 100 I/O (io), 101 I/O (io), 102 I/O (io), 103 I/O (io), 105 I/O (io), 106 I/O (io), 107 I/O (io), 108 I/O (io), 109 I/O (io), 110 I/O (io), 111 I/O (io), 113 I/O (io), 114 I/O (io), 115 I/O (io), 116 I/O (io), 117 I/O (io), 118 I/O (io), 119 I/O (io), 120 I/O (io), 126 I/O (io), 127 I/O (io), 128 I/O (io), 129 I/O (io), 131 I/O (io), 132 I/O (io), 133 I/O (io), 134 I/O (io), 136 I/O (io), 137 I/O (io), 138 I/O (io), 139 I/O (io), 141 I/O (io), 142 I/O (io), 143 I/O (io), 144 I/O (io), 146 I/O (io), 147 I/O (io), 148 I/O (io), 149 I/O (io), 151 I/O (io), 152 I/O (io), 153 I/O (io), 154 I/O (io), 156 I/O (io), 157 I/O (io), 158 I/O (io), 159 I/O (io), 161 I/O (io), 162 I/O (io), 163 I/O (io), 164 I/O (io), 166 I/O (io), 167 I/O (io), 168 I/O (io), 169 I/O (io), 171 I/O (io), 172 I/O (io), 173 I/O (io), 174 I/O (io), 175 I/O (io), 184 I/O (io), 187 I/O (io), 191 I/O (io), 192 I/O (io), 193 I/O (io), 194 I/O (io), 195 I/O (io), 196 I/O (io), 198 I/O (io), 199 I/O (io), 200 I/O (io), 201 I/O (io), 202 I/O (io), 203 I/O (io), 204 I/O (io), 206 I/O (io), 207 I/O (io), 208 I/O (io), 214 I/O (io), 215 I/O (io), 217 I/O (io), 218 I/O (io), 219 I/O (io), 220 I/O (io), 221 I/O (io), 222 I/O (io), 223 I/O (io), 225 I/O (io), 226 I/O (io), 227 I/O (io), 228 I/O (io), 229 I/O (io), 230 I/O (io), 231 I/O (io), 233 I/O (io), 234 I/O (io), 235 I/O (io), 237 I/O (io)
part B pins: 1 TCK (in), 2 CONF_DONE (in), 3 nCEO (out), 4 TDO (out), 11 CLKUSR (io), 23 RDYnBSY (io), 26 INIT_DONE (io), 58 TMS (in), 59 TRST (in), 60 nSTATUS (in), 90 INPUT (in), 91 CLK (in), 92 INPUT (in), 121 nCONFIG (in), 123 MSEL1 (in), 124 MSEL0 (in), 177 TDI (in), 178 nCE (in), 179 DCLK (in), 180 DATA0 (in), 181 DATA1 (io), 182 DATA2 (io), 183 DATA3 (io), 185 DATA4 (io), 186 DATA5 (io), 188 DATA6 (io), 190 DATA7 (io), 209 DEV_CLRn (io), 210 INPUT (in), 211 CLK (in), 212 INPUT (in), 213 DEV_OE (io), 236 nRS (io), 238 nWS (io), 239 CS (io), 240 nCS (io)
part C pins: 5 VCCINT (power), 10 GNDINT (power), 16 VCCINT (power), 22 GNDINT (power), 27 VCCINT (power), 32 GNDINT (power), 37 VCCINT (power), 42 GNDINT (power), 47 VCCINT (power), 52 GNDINT (power), 57 VCCINT (power), 69 GNDINT (power), 77 VCCINT (power), 85 GNDINT (power), 89 VCCINT (power), 93 GNDINT (power), 96 VCCINT (power), 104 GNDINT (power), 112 VCCINT (power), 122 VCCINT (power), 125 GNDINT (power), 130 VCCINT (power), 135 GNDINT (power), 140 VCCINT (power), 145 GNDINT (power), 150 VCCINT (power), 155 GNDINT (power), 160 VCCINT (power), 165 GNDINT (power), 170 VCCINT (power), 176 GNDINT (power), 189 VCCINT (power), 197 GNDINT (power), 205 VCCINT (power), 216 GNDINT (power), 224 VCCINT (power), 232 GNDINT (power)

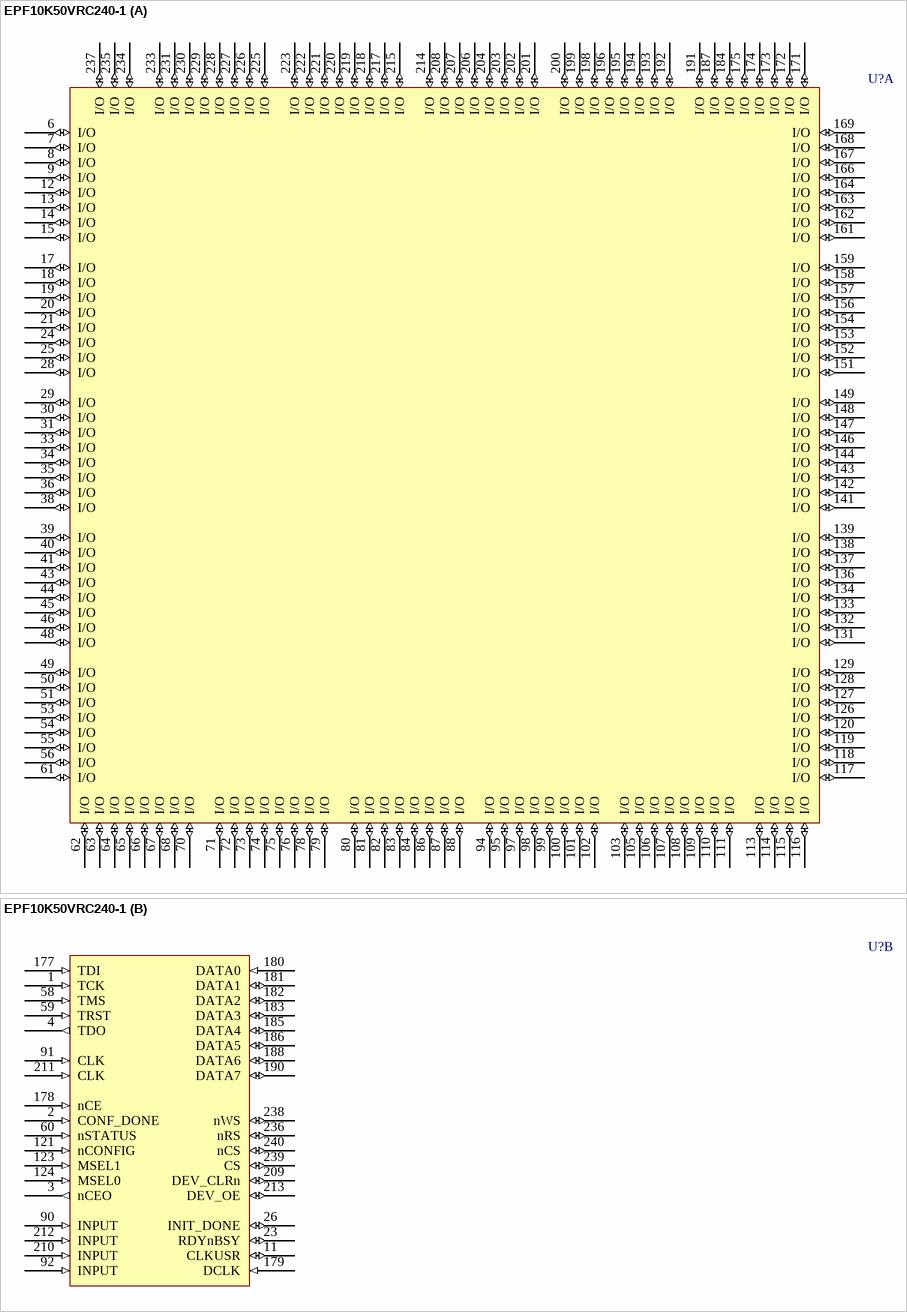
[diagram p176: symbol EPF10K50VRC240-1]

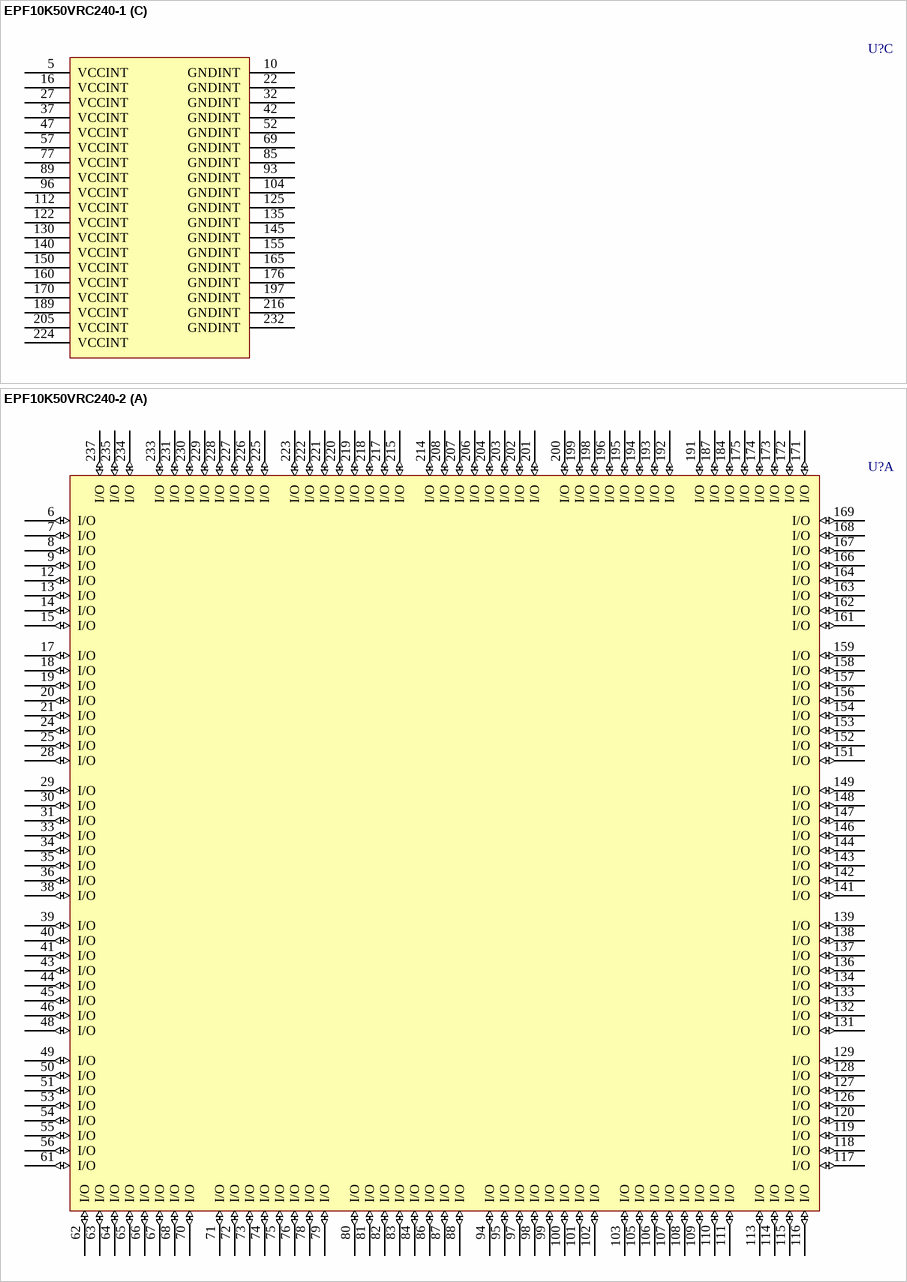
[diagram p177: symbols EPF10K50VRC240-1 to EPF10K50VRC240-2]